# Altium schematic symbol library Altium-IC.SchLib: 158 symbols (part 1 of 2)
Pins are listed as number, name and electrical type; pins without a type are passive.

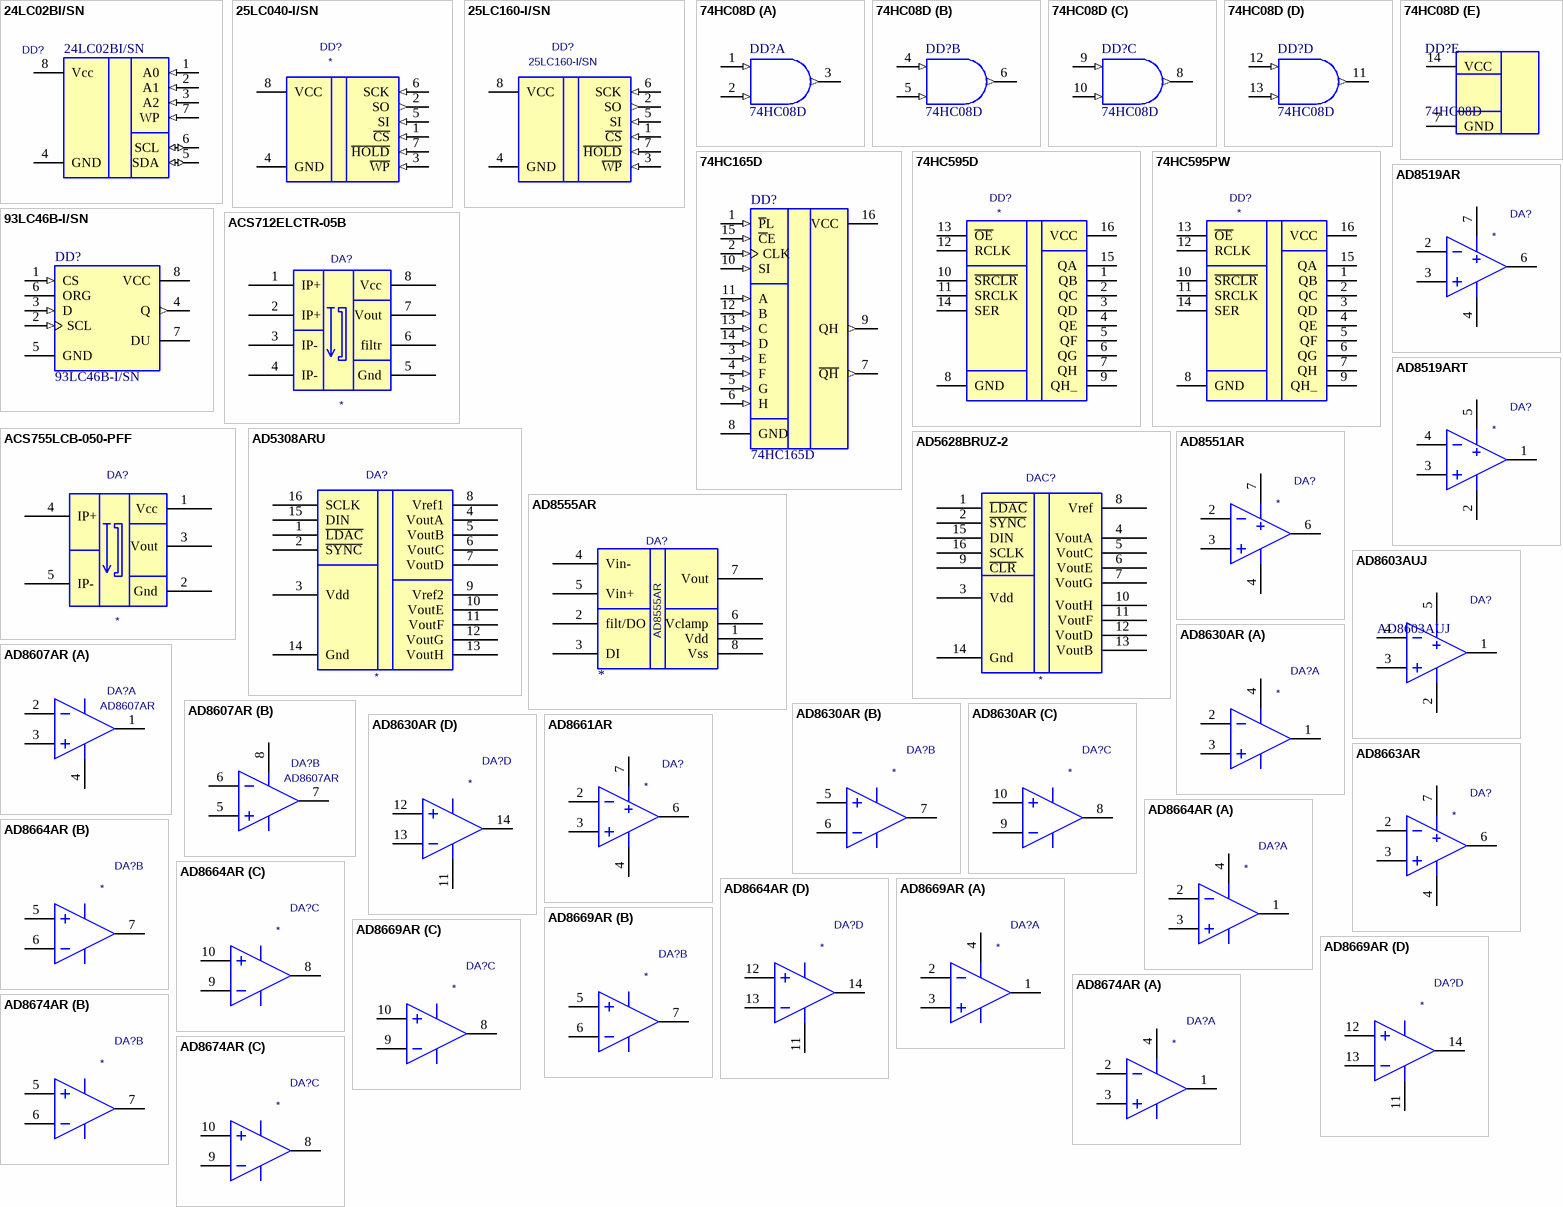
[diagram p0: symbols 24LC02BI/SN to AD8674AR]

## 24LC02BI/SN
designator DD?
2K I2C™ Serial EEPROM; Value: 24LC02BI/SN
footprint Model Name (Footprint not found)
footprint SO8 (SOIC, 8-Leads, Body 4.9x3.9mm, Pitch 1.27mm, IPC High Density)
pins: 1 A0 (in), 2 A1 (in), 3 A2 (in), 4 GND (power), 5 SDA (io), 6 SCL (io), 7 WP (in), 8 Vcc (power)

## 25LC040-I/SN
designator DD?
25LC040-I/SN; Value: *
footprint SO8
pins: 1 ~{CS} (in), 2 SO (out), 3 ~{WP} (in), 4 GND (power), 5 SI (in), 6 SCK (in), 7 ~{HOLD} (in), 8 VCC (power)

## 25LC160-I/SN
designator DD?
16Kbit SPI Bus Serial EEPROM; Value: *
footprint SO8
pins: 1 ~{CS} (in), 2 SO (out), 3 ~{WP} (in), 4 GND (power), 5 SI (in), 6 SCK (in), 7 ~{HOLD} (in), 8 VCC (power)

## 74HC08D
designator DD?
Quadruple 2-Input Positive-AND Gate
footprint SO14
part A pins: 1 A (in), 2 B (in), 3 Y (out)
part B pins: 4 A (in), 5 B (in), 6 Y (out)
part C pins: 8 Y (out), 9 A (in), 10 B (in)
part D pins: 11 Y (out), 12 A (in), 13 B (in)
part E pins: 7 GND (power), 14 VCC (power)

## 74HC165D
designator DD?
8-Bit Parallel-Load Shift Register; Value: *
footprint SO-G16
pins: 1 ~{P}L (in), 2 CLK (in), 3 E (in), 4 F (in), 5 G (in), 6 H (in), 7 ~{QH} (out), 8 GND (power), 9 QH (out), 10 SI (in), 11 A (in), 12 B (in), 13 C (in), 14 D (in), 15 ~{C}E (in), 16 VCC (power)

## 74HC595D
designator DD?
8-bit serial-in, serial or parallel-out  shift register with output latches;  3-state
footprint SO-G16
pins: 1 QB, 2 QC, 3 QD, 4 QE, 5 QF, 6 QG, 7 QH, 8 GND, 9 QH_, 10 ~{SRCLR}, 11 SRCLK, 12 RCLK, 13 ~{OE}, 14 SER, 15 QA, 16 VCC

## 74HC595PW
designator DD?
8-bit serial-in, serial or parallel-out  shift register with output latches;  3-state
footprint TSSOP16 (TSSOP, 16-Leads, Body 5x4.4mm, Pitch 0.65mm, IPC High Density)
pins: 1 QB, 2 QC, 3 QD, 4 QE, 5 QF, 6 QG, 7 QH, 8 GND, 9 QH_, 10 ~{SRCLR}, 11 SRCLK, 12 RCLK, 13 ~{OE}, 14 SER, 15 QA, 16 VCC

## 93LC46B-I/SN
designator DD?
Serial Microwire EEPROM 1K (64 x 16 or 128 x 8)
footprint SO8 (SOIC, 8-Leads, Body 4.9x3.9mm, Pitch 1.27mm, IPC High Density)
pins: 1 CS (in), 2 SCL (in), 3 D (in), 4 Q (out), 5 GND (power), 6 ORG, 7 DU, 8 VCC (power)

## ACS712ELCTR-05B
designator DA?
Hall Effect-Based Linear Current Sensor
footprint SO8
pins: 1 IP+, 2 IP+, 3 IP-, 4 IP-, 5 Gnd, 6 filtr, 7 Vout, 8 Vcc

## ACS755LCB-050-PFF
designator DA?
ACS755LCB-050(ACS756); Value: *
footprint CB/CA (Allegro Current sensor)
pins: 1 Vcc, 2 Gnd, 3 Vout, 4 IP+, 5 IP-

## AD5308ARU
designator DA?
AD5308ARU; Value: *
footprint TSSOP16 (TSSOP, 16-Leads, Body 5x4.4mm, Pitch 0.65mm, IPC High Density)
pins: 1 ~{LDAC}, 2 ~{SYNC}, 3 Vdd, 4 VoutA, 5 VoutB, 6 VoutC, 7 VoutD, 8 Vref1, 9 Vref2, 10 VoutE, 11 VoutF, 12 VoutG, 13 VoutH, 14 Gnd, 15 DIN, 16 SCLK

## AD5628BRUZ-2
designator DAC?
AD5628BRUZ-2; Value: *
footprint TSSOP16 (TSSOP, 16-Leads, Body 5x4.4mm, Pitch 0.65mm, IPC High Density)
pins: 1 ~{LDAC}, 2 ~{SYNC}, 3 Vdd, 4 VoutA, 5 VoutC, 6 VoutE, 7 VoutG, 8 Vref, 9 ~{CLR}, 10 VoutH, 11 VoutF, 12 VoutD, 13 VoutB, 14 Gnd, 15 DIN, 16 SCLK

## AD8519AR
designator DA?
Operational Amplifier; Value: *
footprint SO8
pins: 1 hidden, 2 IN-, 3 IN+, 4 V-, 5 hidden, 6 OUT, 7 V+, 8 hidden

## AD8519ART
designator DA?
Operational Amplifier; Value: *
footprint SOT-23-5
pins: 1 OUT, 2 V-, 3 IN+, 4 IN-, 5 V+

## AD8551AR
designator DA?
Operational Amplifier, Zero-Drift, Single-Supply, Rail-to-Rail, Voff 1uV; Value: *
footprint SO8
pins: 1 hidden, 2 IN-, 3 IN+, 4 V-, 5 hidden, 6 OUT, 7 V+, 8 hidden

## AD8555AR
designator DA?
Sensor Signal Amplifier; Value: *
footprint SO8
pins: 1 Vdd, 2 filt/DO, 3 DI, 4 Vin-, 5 Vin+, 6 Vclamp, 7 Vout, 8 Vss

## AD8603AUJ
designator DA?
Low Noise CMOS, Precision 5v, Rail-to-Rail Input/Output Operational Amplifiers; Value: AD8603AUJ
footprint SOT-23-5
pins: 1 OUT, 2 V-, 3 IN+, 4 IN-, 5 V+

## AD8607AR
designator DA?
Operational Amplifier, Voff 700uV
footprint SO8
part A pins: 1 OUT, 2 IN-, 3 IN+, 4 V-
part B pins: 5 IN+, 6 IN-, 7 OUT, 8 V+

## AD8630AR
designator DA?
Operational Amplifier; Value: *
footprint SO14
part A pins: 1 OUT, 2 IN-, 3 IN+, 4 V+
part B pins: 5 IN+, 6 IN-, 7 OUT
part C pins: 8 OUT, 9 IN-, 10 IN+
part D pins: 11 V-, 12 IN+, 13 IN-, 14 OUT

## AD8661AR
designator DA?
Low Noise, Precision 16 V CMOS,  Rail-to-Rail Operational Amplifiers; Value: *
footprint SO8
pins: 1 hidden, 2 IN-, 3 IN+, 4 V-, 5 hidden, 6 OUT, 7 V+, 8 hidden

## AD8663AR
designator DA?
Operational Amplifier; Value: *
footprint SO8
pins: 1 hidden, 2 IN-, 3 IN+, 4 V-, 5 hidden, 6 OUT, 7 V+, 8 hidden

## AD8664AR
designator DA?
Low Noise, Precision 16 V CMOS,  Rail-to-Rail Operational Amplifiers; Value: *
footprint SO14
part A pins: 1 OUT, 2 IN-, 3 IN+, 4 V+
part B pins: 5 IN+, 6 IN-, 7 OUT
part C pins: 8 OUT, 9 IN-, 10 IN+
part D pins: 11 V-, 12 IN+, 13 IN-, 14 OUT

## AD8669AR
designator DA?
Operational Amplifier, Rail to Rail; Value: *
footprint SO14
part A pins: 1 OUT, 2 IN-, 3 IN+, 4 V+
part B pins: 5 IN+, 6 IN-, 7 OUT
part C pins: 8 OUT, 9 IN-, 10 IN+
part D pins: 11 V-, 12 IN+, 13 IN-, 14 OUT

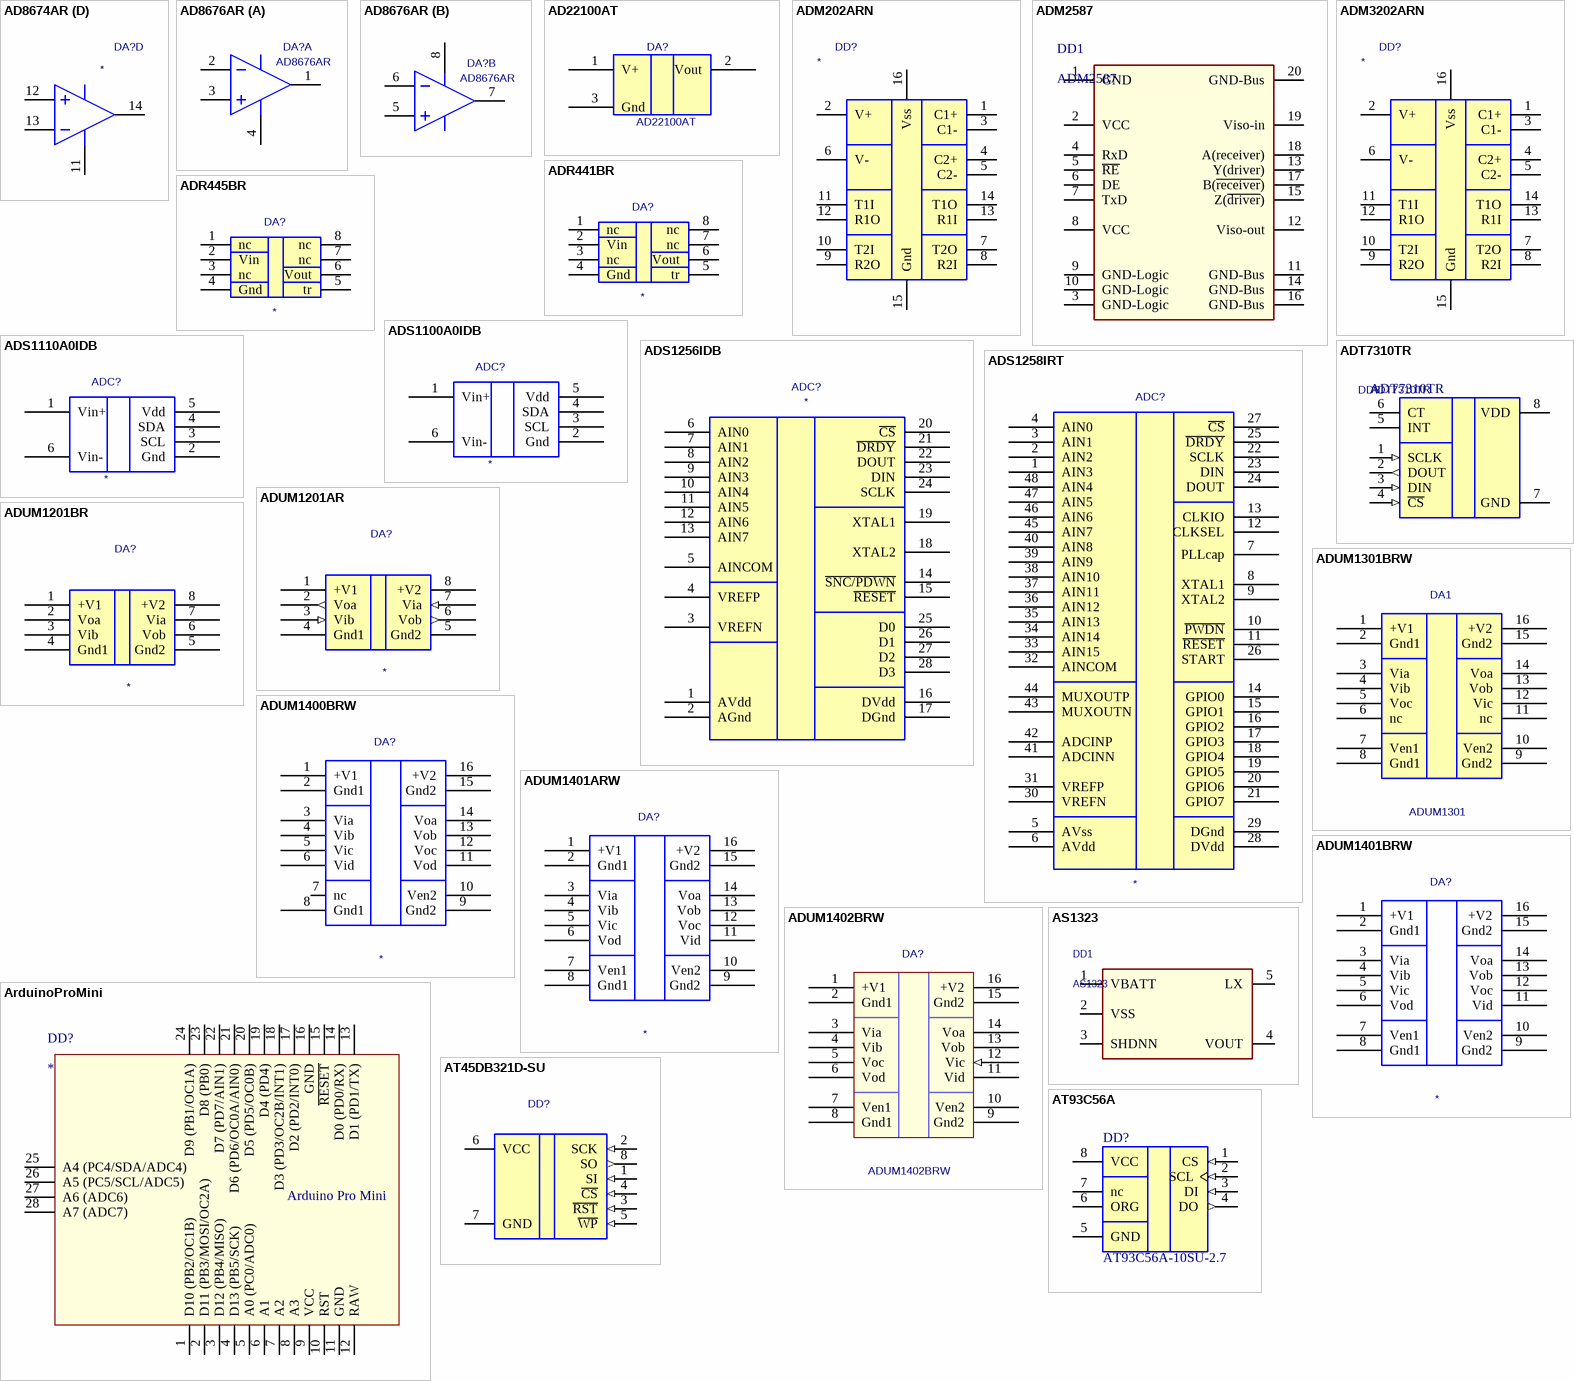
[diagram p1: symbols AD8674AR to AT93C56A]

## AD8674AR
designator DA?
Operational Amplifier; Value: *
footprint SO14
part A pins: 1 OUT, 2 IN-, 3 IN+, 4 V+
part B pins: 5 IN+, 6 IN-, 7 OUT
part C pins: 8 OUT, 9 IN-, 10 IN+
part D pins: 11 V-, 12 IN+, 13 IN-, 14 OUT

## AD8676AR
designator DA?
Operational Amplifier, Voff 100uV
footprint SO8
part A pins: 1 OUT, 2 IN-, 3 IN+, 4 V-
part B pins: 5 IN+, 6 IN-, 7 OUT, 8 V+

## AD22100AT
designator DA?
Voltage Output Temperature Sensor
footprint TO-92 (Modifined, 3x1.524mm)
pins: 1 V+, 2 Vout, 3 Gnd

## ADM202ARN
designator DD?
RS232 driver 5V; Value: *
footprint SO-G16 (SOIC, 16-Leads, Body 9.9x3.9mm, Pitch 1.27mm, IPC High Density)
pins: 1 C1+, 2 V+, 3 C1-, 4 C2+, 5 C2-, 6 V-, 7 T2O, 8 R2I, 9 R2O, 10 T2I, 11 T1I, 12 R1O, 13 R1I, 14 T1O, 15 Gnd, 16 Vss

## ADM2587
designator DD1
Signal and Power Isolated RS-485 integrated DC/DC
footprint SOIC127P1030X265-20M (SOIC, 20-Leads, Body 13,0x7,6mm (max), Pitch 1,27mm, IPC Low Density)
pins: 1 GND, 2 VCC, 3 GND-Logic, 4 RxD, 5 ~{RE}, 6 DE, 7 TxD, 8 VCC, 9 GND-Logic, 10 GND-Logic, 11 GND-Bus, 12 Viso-out, 13 Y(driver), 14 GND-Bus, 15 Z(~{driver}), 16 GND-Bus, 17 B(~{receiver}), 18 A(receiver), 19 Viso-in, 20 GND-Bus

## ADM3202ARN
designator DD?
RS232 driver 3.3V; Value: *
footprint TSSOP16 (TSSOP, 16-Leads, Body 5x4.4mm, Pitch 0.65mm, IPC High Density)
footprint SO-G16 (SOIC, 16-Leads, Body 9.9x3.9mm, Pitch 1.27mm, IPC High Density)
pins: 1 C1+, 2 V+, 3 C1-, 4 C2+, 5 C2-, 6 V-, 7 T2O, 8 R2I, 9 R2O, 10 T2I, 11 T1I, 12 R1O, 13 R1I, 14 T1O, 15 Gnd, 16 Vss

## ADR441BR
designator DA?
2.5V References; Value: *
footprint SO8
pins: 1 nc, 2 Vin, 3 nc, 4 Gnd, 5 tr, 6 Vout, 7 nc, 8 nc

## ADR445BR
designator DA?
5V References, 0.04%, 1ppm; Value: *
footprint SO8
pins: 1 nc, 2 Vin, 3 nc, 4 Gnd, 5 tr, 6 Vout, 7 nc, 8 nc

## ADS1100A0IDB
designator ADC?
ADS1100A0IDB; Value: *
footprint SOT-23-6
pins: 1 Vin+, 2 Gnd, 3 SCL, 4 SDA, 5 Vdd, 6 Vin-

## ADS1110A0IDB
designator ADC?
ADS1110A0IDB; Value: *
footprint SOT-23-6
pins: 1 Vin+, 2 Gnd, 3 SCL, 4 SDA, 5 Vdd, 6 Vin-

## ADS1256IDB
designator ADC?
ADS1256IDB; Value: *
footprint SOP65P780-28L (SOP, 28-Leads, Body 10.2x5.3mm, Pitch 0.65mm, IPC High Density)
pins: 1 AVdd, 2 AGnd, 3 VREFN, 4 VREFP, 5 AINCOM, 6 AIN0, 7 AIN1, 8 AIN2, 9 AIN3, 10 AIN4, 11 AIN5, 12 AIN6, 13 AIN7, 14 ~{SNC/PDWN}, 15 ~{RESET}, 16 DVdd, 17 DGnd, 18 XTAL2, 19 XTAL1, 20 ~{CS}, 21 ~{DRDY}, 22 DOUT, 23 DIN, 24 SCLK, 25 D0, 26 D1, 27 D2, 28 D3

## ADS1258IRT
designator ADC?
ADS1258IRT; Value: *
footprint QFN7X7-48
pins: 1 AIN3, 2 AIN2, 3 AIN1, 4 AIN0, 5 AVss, 6 AVdd, 7 PLLcap, 8 XTAL1, 9 XTAL2, 10 ~{PWDN}, 11 ~{RESET}, 12 CLKSEL, 13 CLKIO, 14 GPIO0, 15 GPIO1, 16 GPIO2, 17 GPIO3, 18 GPIO4, 19 GPIO5, 20 GPIO6, 21 GPIO7, 22 SCLK, 23 DIN, 24 DOUT, 25 ~{DRDY}, 26 START, 27 ~{CS}, 28 DVdd, 29 DGnd, 30 VREFN, 31 VREFP, 32 AINCOM, 33 AIN15, 34 AIN14, 35 AIN13, 36 AIN12, 37 AIN11, 38 AIN10, 39 AIN9, 40 AIN8, 41 ADCINN, 42 ADCINP, 43 MUXOUTN, 44 MUXOUTP, 45 AIN7, 46 AIN6, 47 AIN5, 48 AIN4

## ADT7310TR
designator DD?
±0.5°C Accurate, 16-Bit  Digital SPI Temperature Sensor; Value: ADT7310TR
footprint Model Name (Footprint not found)
footprint SO8 (SOIC, 8-Leads, Body 4.9x3.9mm, Pitch 1.27mm, IPC High Density)
pins: 1 SCLK (in), 2 DOUT (out), 3 DIN (in), 4 ~{CS} (in), 5 INT (oc), 6 CT (oc), 7 GND (power), 8 VDD (power)

## ADUM1201AR
designator DA?
Standart digital isolator 1/1 channels; Value: *
footprint SO8
pins: 1 +V1, 2 Voa (out), 3 Vib (in), 4 Gnd1, 5 Gnd2, 6 Vob (out), 7 Via (in), 8 +V2

## ADUM1201BR
designator DA?
Standart digital isolator 1/1 channels; Value: *
footprint SO8
pins: 1 +V1, 2 Voa, 3 Vib, 4 Gnd1, 5 Gnd2, 6 Vob, 7 Via, 8 +V2

## ADUM1301BRW
designator DA1, comment ADUM1301
Standart digital isolator 2/1 channels; Value: *
footprint SOIC-16N (SOIC, 16-Leads, Body 10,5x7,6mm (max), Pitch 1,27mm, IPC Medium Density)
pins: 1 +V1, 2 Gnd1, 3 Via, 4 Vib, 5 Voc, 6 nc, 7 Ven1, 8 Gnd1, 9 Gnd2, 10 Ven2, 11 nc, 12 Vic, 13 Vob, 14 Voa, 15 Gnd2, 16 +V2

## ADUM1400BRW
designator DA?
Standart digital isolator 4/0 channels; Value: *
pins: 1 +V1, 2 Gnd1, 3 Via, 4 Vib, 5 Vic, 6 Vid, 7 nc, 8 Gnd1, 9 Gnd2, 10 Ven2, 11 Vod, 12 Voc, 13 Vob, 14 Voa, 15 Gnd2, 16 +V2

## ADUM1401ARW
designator DA?
Standart digital isolator 3/1 channels; Value: *
pins: 1 +V1, 2 Gnd1, 3 Via, 4 Vib, 5 Vic, 6 Vod, 7 Ven1, 8 Gnd1, 9 Gnd2, 10 Ven2, 11 Vid, 12 Voc, 13 Vob, 14 Voa, 15 Gnd2, 16 +V2

## ADUM1401BRW
designator DA?
Standart digital isolator 3/1 channels; Value: *
pins: 1 +V1, 2 Gnd1, 3 Via, 4 Vib, 5 Vic, 6 Vod, 7 Ven1, 8 Gnd1, 9 Gnd2, 10 Ven2, 11 Vid, 12 Voc, 13 Vob, 14 Voa, 15 Gnd2, 16 +V2

## ADUM1402BRW
designator DA?
Standart digital isolator 2/2 channels; Value: *
footprint SOIC-16N (SOIC, 16-Leads, Body 10,5x7,6mm (max), Pitch 1,27mm, IPC Medium Density)
pins: 1 +V1, 2 Gnd1, 3 Via, 4 Vib, 5 Voc, 6 Vod, 7 Ven1, 8 Gnd1, 9 Gnd2, 10 Ven2, 11 Vid, 12 Vic (in), 13 Vob, 14 Voa, 15 Gnd2, 16 +V2

## ArduinoProMini
designator DD?
Arduino Pro Mini board
footprint Arduino Pro Mini
footprint Arduino Pro Mini baite
pins: 1 D10 (PB2/OC1B), 2 D11 (PB3/MOSI/OC2A), 3 D12 (PB4/MISO), 4 D13 (PB5/SCK), 5 A0 (PC0/ADC0), 6 A1, 7 A2, 8 A3, 9 VCC, 10 RST, 11 GND, 12 RAW, 13 D1 (PD1/TX), 14 D0 (PD0/RX), 15 ~{RESET}, 16 GND, 17 D2 (PD2/INT0), 18 D3 (PD3/OC2B/INT1), 19 D4 (PD4), 20 D5 (PD5/OC0B), 21 D6 (PD6/OC0A/AIN0), 22 D7 (PD7/AIN1), 23 D8 (PB0), 24 D9 (PB1/OC1A), 25 A4 (PC4/SDA/ADC4), 26 A5 (PC5/SCL/ADC5), 27 A6 (ADC6), 28 A7 (ADC7)
text: Arduino Pro Mini

## AS1323
designator DD1
Single cell DC/DC converter
footprint SOT-23-5 (http://www.nxp.com/acrobat_download/packages/SOT753.pdf)
pins: 1 VBATT, 2 VSS, 3 SHDNN, 4 VOUT, 5 LX

## AT45DB321D-SU
designator DD?  (value not drawn)
32 Mbit SPI Atmel DataFlash; Value: *
footprint SO8-2_L (8-Pin Small Outline Package 200mil, 1.27 mm Pitch, IPC High Density)
footprint SO8_2_N (8-Pin Small Outline Package 200mil, 1.27 mm Pitch, IPC Medium Density)
pins: 1 SI (in), 2 SCK (in), 3 ~{RST} (in), 4 ~{CS} (in), 5 ~{WP} (in), 6 VCC (power), 7 GND (power), 8 SO (out)

## AT93C56A
designator DD?, comment AT93C56A-10SU-2.7
Serial Microwire EEPROM 2K (128 x 16 or 256 x 8); Value: AT93C56A-10SU-2.7
footprint SO8 (SOIC, 8-Leads, Body 4.9x3.9mm, Pitch 1.27mm, IPC High Density)
pins: 1 CS (in), 2 SCL (in), 3 DI (in), 4 DO (out), 5 GND (power), 6 ORG, 7 nc, 8 VCC (power)

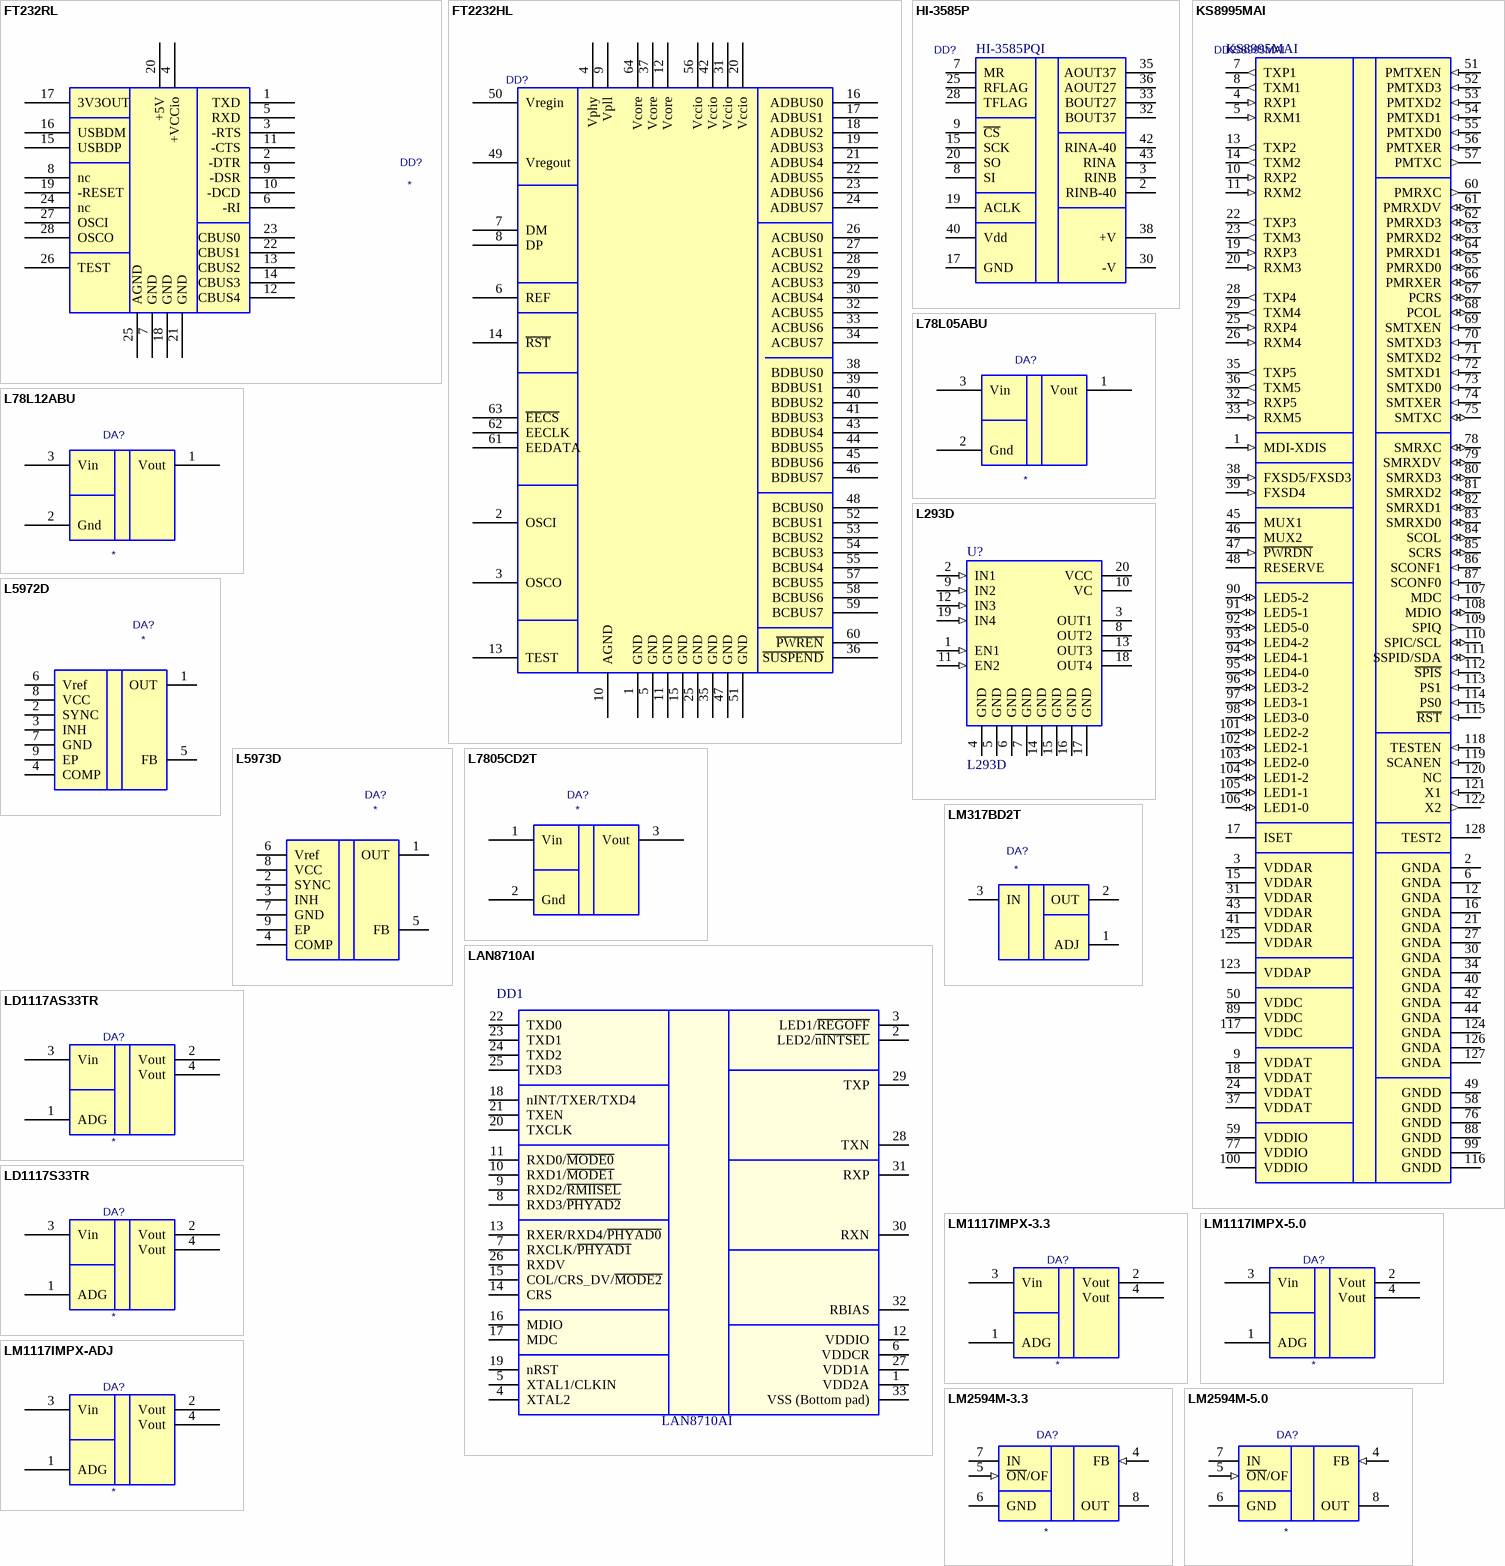
[diagram p2: symbols FT232RL to LM2594M-5.0]

## FT232RL
designator DD?
USB to serial UART  interface
footprint SOP65P780-28L (SOP, 28-Leads, Body 10.2x5.3mm, Pitch 0.65mm, IPC High Density)
pins: 1 TXD, 2 -DTR, 3 -RTS, 4 +VCCio, 5 RXD, 6 -RI, 7 GND, 8 nc, 9 -DSR, 10 -DCD, 11 -CTS, 12 CBUS4, 13 CBUS2, 14 CBUS3, 15 USBDP, 16 USBDM, 17 3V3OUT, 18 GND, 19 -RESET, 20 +5V, 21 GND, 22 CBUS1, 23 CBUS0, 24 nc, 25 AGND, 26 TEST, 27 OSCI, 28 OSCO

## FT2232HL
designator DD?
Dual High Speed  USB to Multipurpose  UART/FIFO IC
footprint LQFP64_L (Thin QFP, 64-Leads, Body 10x10mm, Pitch 0.5mm, IPC High Density)
pins: 1 GND, 2 OSCI, 3 OSCO, 4 Vphy, 5 GND, 6 REF, 7 DM, 8 DP, 9 Vpll, 10 AGND, 11 GND, 12 Vcore, 13 TEST, 14 ~{RST}, 15 GND, 16 ADBUS0, 17 ADBUS1, 18 ADBUS2, 19 ADBUS3, 20 Vccio, 21 ADBUS4, 22 ADBUS5, 23 ADBUS6, 24 ADBUS7, 25 GND, 26 ACBUS0, 27 ACBUS1, 28 ACBUS2, 29 ACBUS3, 30 ACBUS4, 31 Vccio, 32 ACBUS5, 33 ACBUS6, 34 ACBUS7, 35 GND, 36 ~{SUSPEND}, 37 Vcore, 38 BDBUS0, 39 BDBUS1, 40 BDBUS2, 41 BDBUS3, 42 Vccio, 43 BDBUS4, 44 BDBUS5, 45 BDBUS6, 46 BDBUS7, 47 GND, 48 BCBUS0, 49 Vregout, 50 Vregin, 51 GND, 52 BCBUS1, 53 BCBUS2, 54 BCBUS3, 55 BCBUS4, 56 Vccio, 57 BCBUS5, 58 BCBUS6, 59 BCBUS7, 60 ~{PWREN}, 61 EEDATA, 62 EECLK, 63 ~{EECS}, 64 Vcore

## HI-3585P
designator DD?, comment HI-3585PQI
ARINC429 Terminal IC with SPI Interface; Value: HI-3585PQI
footprint PQFP80P1390X1390-44L (QFP, 44-Leads, Body 10x10mm, Pitch 0.8mm, IPC High Density)
pins: 2 RINB-40, 3 RINB, 7 MR, 8 SI, 9 ~{CS}, 15 SCK, 17 GND, 19 ACLK, 20 SO, 25 RFLAG, 28 TFLAG, 30 -V, 32 BOUT37, 33 BOUT27, 35 AOUT37, 36 AOUT27, 38 +V, 40 Vdd, 42 RINA-40, 43 RINA

## KS8995MAI
designator DD?
Integrated 5-Port 10/100 Managed Switch; Value: KS8995MAI
footprint PQFP50P1720X2320-128L (Shrink QFP, 128-Leads, Body 20x14 mm, Pitch 0.5mm, IPC High Density)
pins: 1 MDI-XDIS (in), 2 GNDA (power), 3 VDDAR (power), 4 RXP1 (in), 5 RXM1 (in), 6 GNDA (power), 7 TXP1 (out), 8 TXM1 (out), 9 VDDAT, 10 RXP2 (in), 11 RXM2 (in), 12 GNDA (power), 13 TXP2 (out), 14 TXM2 (out), 15 VDDAR (power), 16 GNDA (power), 17 ISET, 18 VDDAT (power), 19 RXP3 (in), 20 RXM3 (in), 21 GNDA (power), 22 TXP3 (out), 23 TXM3 (out), 24 VDDAT (power), 25 RXP4 (in), 26 RXM4 (in), 27 GNDA (power), 28 TXP4 (out), 29 TXM4 (out), 30 GNDA (power), 31 VDDAR (power), 32 RXP5 (in), 33 RXM5 (in), 34 GNDA (power), 35 TXP5 (out), 36 TXM5 (out), 37 VDDAT (power), 38 FXSD5/FXSD3 (in), 39 FXSD4 (in), 40 GNDA (power), 41 VDDAR (power), 42 GNDA (power), 43 VDDAR (power), 44 GNDA (power), 45 MUX1, 46 MUX2, 47 ~{PWRDN} (in), 48 RESERVE, 49 GNDD (power), 50 VDDC (power), 51 PMTXEN (in), 52 PMTXD3 (in), 53 PMTXD2 (in), 54 PMTXD1 (in), 55 PMTXD0 (in), 56 PMTXER (in), 57 PMTXC (out), 58 GNDD (power), 59 VDDIO (power), 60 PMRXC (out), 61 PMRXDV (io), 62 PMRXD3 (io), 63 PMRXD2 (io), 64 PMRXD1 (io), 65 PMRXD0 (io), 66 PMRXER (io), 67 PCRS (io), 68 PCOL (io), 69 SMTXEN (in), 70 SMTXD3 (in), 71 SMTXD2 (in), 72 SMTXD1 (in), 73 SMTXD0 (in), 74 SMTXER (in), 75 SMTXC (io), 76 GNDD (power), 77 VDDIO (power), 78 SMRXC (io), 79 SMRXDV (io), 80 SMRXD3 (io), 81 SMRXD2 (io), 82 SMRXD1 (io), 83 SMRXD0 (io), 84 SCOL (io), 85 SCRS (io), 86 SCONF1 (in), 87 SCONF0 (in), 88 GNDD (power), 89 VDDC (power), 90 LED5-2 (io), 91 LED5-1 (io), 92 LED5-0 (io), 93 LED4-2 (io), 94 LED4-1 (io), 95 LED4-0 (io), 96 LED3-2 (io), 97 LED3-1 (io), 98 LED3-0 (io), 99 GNDD (power), 100 VDDIO (power), 101 LED2-2 (io), 102 LED2-1 (io), 103 LED2-0 (io), 104 LED1-2 (io), 105 LED1-1 (io), 106 LED1-0 (io), 107 MDC (in), 108 MDIO (io), 109 SPIQ (out), 110 SPIC/SCL (io), 111 SSPID/SDA (io), 112 ~{SPIS} (in), 113 PS1 (in), 114 PS0 (in), 115 ~{RST} (in), 116 GNDD (power), 117 VDDC (power), 118 TESTEN (in), 119 SCANEN (in), 120 NC, 121 X1 (in), 122 X2 (out), 123 VDDAP (power), 124 GNDA (power), 125 VDDAR (power), 126 GNDA (power), 127 GNDA (power), 128 TEST2

## L78L05ABU
designator DA?
L78L05ABU; Value: *
footprint SOT89
pins: 1 Vout, 2 Gnd, 3 Vin

## L78L12ABU
designator DA?
L78L12ABU; Value: *
footprint SOT89
pins: 1 Vout, 2 Gnd, 3 Vin

## L293D
designator U?
Push-Pull Four Channel Driver With Diode
pins: 1 EN1 (in), 2 IN1 (in), 3 OUT1 (hiz), 4 GND (power), 5 GND (power), 6 GND (power), 7 GND (power), 8 OUT2 (hiz), 9 IN2 (in), 10 VC (power), 11 EN2 (in), 12 IN3 (in), 13 OUT3 (hiz), 14 GND (power), 15 GND (power), 16 GND (power), 17 GND (power), 18 OUT4 (hiz), 19 IN4 (in), 20 VCC (power)

## L5972D
designator DA?
2A switch step down switching regulator; Value: *
footprint SO8-h (SOIC with Exposed pad, 8-Leads, Body 4.9x3.9mm, Pitch 1.27mm, IPC High Density)
pins: 1 OUT (power), 2 SYNC, 3 INH, 4 COMP (power), 5 FB, 6 Vref (power), 7 GND (power), 8 VCC (power), 9 EP (power)

## L5973D
designator DA?
3A switch step down switching regulator; Value: *
footprint SO8-h (SOIC with Exposed pad, 8-Leads, Body 4.9x3.9mm, Pitch 1.27mm, IPC High Density)
pins: 1 OUT (power), 2 SYNC, 3 INH, 4 COMP (power), 5 FB, 6 Vref (power), 7 GND (power), 8 VCC (power), 9 EP (power)

## L7805CD2T
designator DA?
L7805CD2T; Value: *
footprint D2P
pins: 1 Vin, 2 Gnd, 3 Vout

## LAN8710AI
designator DD1
10/100 Ethernet Transceiver; Value: LAN8710AI
footprint QFN32
pins: 1 VDD2A, 2 LED2/~{nINTSEL}, 3 LED1/~{REGOFF}, 4 XTAL2, 5 XTAL1/CLKIN, 6 VDDCR, 7 RXCLK/~{PHYAD1}, 8 RXD3/~{PHYAD2}, 9 RXD2/~{RMIISEL}, 10 RXD1/~{MODE1}, 11 RXD0/~{MODE0}, 12 VDDIO, 13 RXER/RXD4/~{PHYAD0}, 14 CRS, 15 COL/CRS_DV/~{MODE2}, 16 MDIO, 17 MDC, 18 nINT/TXER/TXD4, 19 nRST, 20 TXCLK, 21 TXEN, 22 TXD0, 23 TXD1, 24 TXD2, 25 TXD3, 26 RXDV, 27 VDD1A, 28 TXN, 29 TXP, 30 RXN, 31 RXP, 32 RBIAS, 33 VSS (Bottom pad)

## LD1117AS33TR
designator DA?
800 mA, Low-Dropout Regulator, -40/+125
footprint SOT-223
pins: 1 ADG, 2 Vout, 3 Vin, 4 Vout

## LD1117S33TR
designator DA?
800 mA, Low-Dropout Regulator, -0/+150
footprint SOT-223
pins: 1 ADG, 2 Vout, 3 Vin, 4 Vout

## LM317BD2T
designator DA?
LM317BD2T; PackageDocument: 1997; ComponentLink1DescBC: Manufacturer Link; ComponentLink2DescA4: Datasheet; Note: Pin 2 is electrically connected to Pin 4; Pin 4 is heasink; Published: 15-Apr-2002; DatasheetDocument: 1996; PackageReference: 936-03; Publisher: Altium Limited; ComponentLink1URL: http://www.onsemi.com/site/products/taxonomy/0,4438,503,00.html; ComponentLink2URL: http://www.onsemi.com/pub/Collateral/LM317-D.PDF; Value: *
footprint D2P
pins: 1 ADJ, 2 OUT, 3 IN

## LM1117IMPX-3.3
designator DA?
LM1117IMPX-3.3
footprint SOT-223
pins: 1 ADG, 2 Vout, 3 Vin, 4 Vout

## LM1117IMPX-5.0
designator DA?
LM1117IMPX-5.0
footprint SOT-223
pins: 1 ADG, 2 Vout, 3 Vin, 4 Vout

## LM1117IMPX-ADJ
designator DA?
LM1117IMPX-ADJ; Value: *
footprint SOT-223
pins: 1 ADG, 2 Vout, 3 Vin, 4 Vout

## LM2594M-3.3
designator DA?
Step-Down Voltage Regulator
footprint SO8
pins: 4 FB (in), 5 ~{ON}/OF (in), 6 GND, 7 IN (power), 8 OUT (power)

## LM2594M-5.0
designator DA?
Step-Down Voltage Regulator
footprint SO8
pins: 4 FB (in), 5 ~{ON}/OF (in), 6 GND, 7 IN (power), 8 OUT (power)

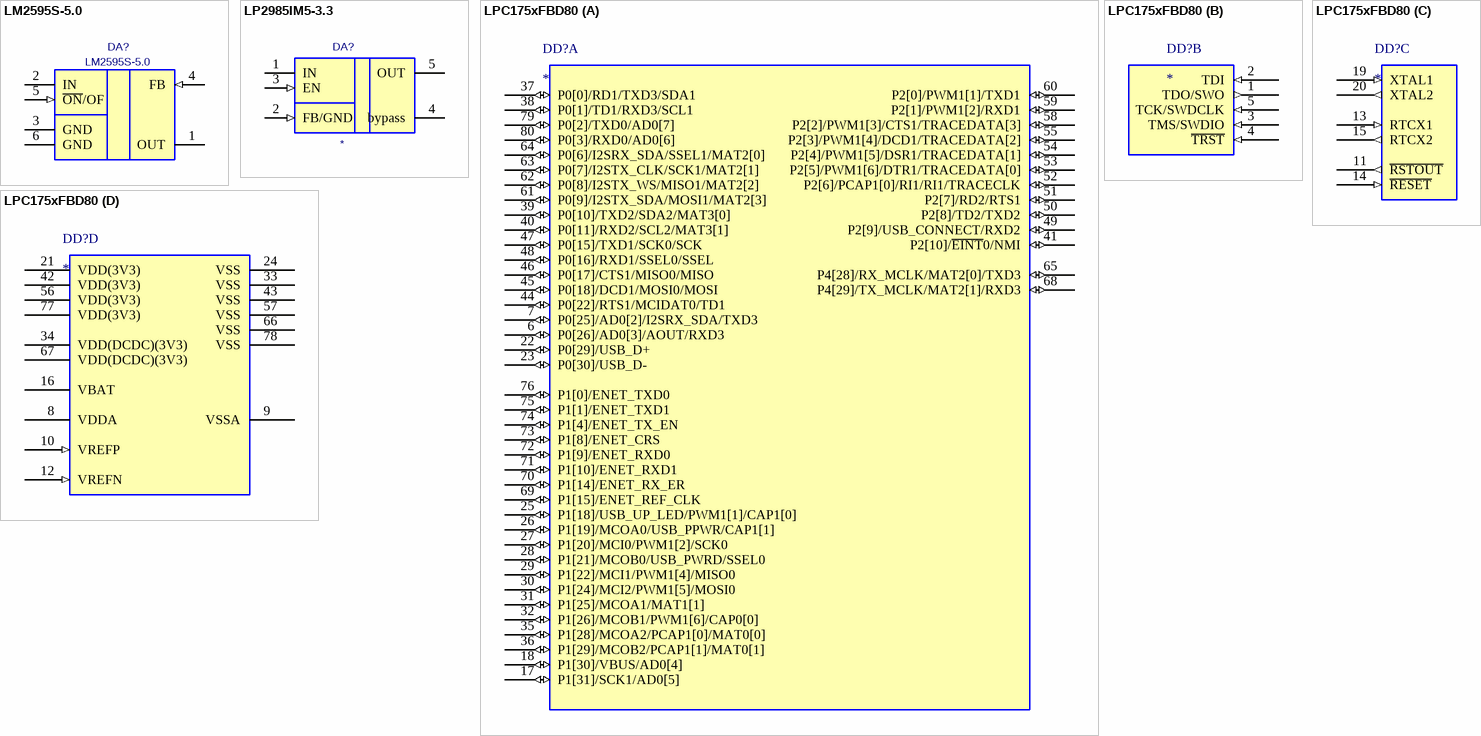
[diagram p3: symbols LM2595S-5.0 to LPC175xFBD80]

## LM2595S-5.0
designator DA?
Step-Down Voltage Regulator
footprint TS5B
pins: 1 OUT (power), 2 IN (power), 3 GND, 4 FB (in), 5 ~{ON}/OF (in), 6 GND

## LP2985IM5-3.3
designator DA?
150 mA, Low-Noise, Ultra Low-Dropout Regulator
footprint SOT-23-5
pins: 1 IN (power), 2 FB/GND (in), 3 EN (in), 4 bypass, 5 OUT (power)

## LPC175xFBD80
designator DD?
ARM Cortex-M3 32-Bit Microcontroller, 256KB Flash, 32KB RAM, 2 Channel CAN, 80-Lead LQFP; Value: *
footprint LQFP80_L (Thin QFP, 80-Leads, Body 12x12mm, Pitch 0.5mm, IPC High Density)
footprint LQFP80_N (Thin QFP, 80-Leads, Body 12x12mm, Pitch 0.5mm, IPC Medium Density)
part A pins: 6 P0[26]/AD0[3]/AOUT/RXD3 (io), 7 P0[25]/AD0[2]/I2SRX_SDA/TXD3 (io), 17 P1[31]/SCK1/AD0[5] (io), 18 P1[30]/VBUS/AD0[4] (io), 22 P0[29]/USB_D+ (io), 23 P0[30]/USB_D- (io), 25 P1[18]/USB_UP_LED/PWM1[1]/CAP1[0] (io), 26 P1[19]/MCOA0/USB_PPWR/CAP1[1] (io), 27 P1[20]/MCI0/PWM1[2]/SCK0 (io), 28 P1[21]/MCOB0/USB_PWRD/SSEL0 (io), 29 P1[22]/MCI1/PWM1[4]/MISO0 (io), 30 P1[24]/MCI2/PWM1[5]/MOSI0 (io), 31 P1[25]/MCOA1/MAT1[1] (io), 32 P1[26]/MCOB1/PWM1[6]/CAP0[0] (io), 35 P1[28]/MCOA2/PCAP1[0]/MAT0[0] (io), 36 P1[29]/MCOB2/PCAP1[1]/MAT0[1] (io), 37 P0[0]/RD1/TXD3/SDA1 (io), 38 P0[1]/TD1/RXD3/SCL1 (io), 39 P0[10]/TXD2/SDA2/MAT3[0] (io), 40 P0[11]/RXD2/SCL2/MAT3[1] (io), 41 P2[10]/~{EINT}0/NMI (io), 44 P0[22]/RTS1/MCIDAT0/TD1 (io), 45 P0[18]/DCD1/MOSI0/MOSI (io), 46 P0[17]/CTS1/MISO0/MISO (io), 47 P0[15]/TXD1/SCK0/SCK (io), 48 P0[16]/RXD1/SSEL0/SSEL (io), 49 P2[9]/USB_CONNECT/RXD2 (io), 50 P2[8]/TD2/TXD2 (io), 51 P2[7]/RD2/RTS1 (io), 52 P2[6]/PCAP1[0]/RI1/RI1/TRACECLK (io), 53 P2[5]/PWM1[6]/DTR1/TRACEDATA[0] (io), 54 P2[4]/PWM1[5]/DSR1/TRACEDATA[1] (io), 55 P2[3]/PWM1[4]/DCD1/TRACEDATA[2] (io), 58 P2[2]/PWM1[3]/CTS1/TRACEDATA[3] (io), 59 P2[1]/PWM1[2]/RXD1 (io), 60 P2[0]/PWM1[1]/TXD1 (io), 61 P0[9]/I2STX_SDA/MOSI1/MAT2[3] (io), 62 P0[8]/I2STX_WS/MISO1/MAT2[2] (io), 63 P0[7]/I2STX_CLK/SCK1/MAT2[1] (io), 64 P0[6]/I2SRX_SDA/SSEL1/MAT2[0] (io), 65 P4[28]/RX_MCLK/MAT2[0]/TXD3 (io), 68 P4[29]/TX_MCLK/MAT2[1]/RXD3 (io), 69 P1[15]/ENET_REF_CLK (io), 70 P1[14]/ENET_RX_ER (io), 71 P1[10]/ENET_RXD1 (io), 72 P1[9]/ENET_RXD0 (io), 73 P1[8]/ENET_CRS (io), 74 P1[4]/ENET_TX_EN (io), 75 P1[1]/ENET_TXD1 (io), 76 P1[0]/ENET_TXD0 (io), 79 P0[2]/TXD0/AD0[7] (io), 80 P0[3]/RXD0/AD0[6] (io)
part B pins: 1 TDO/SWO (out), 2 TDI (in), 3 TMS/SWDIO (in), 4 ~{TRST} (in), 5 TCK/SWDCLK (in)
part C pins: 11 ~{RSTOUT} (out), 13 RTCX1 (in), 14 ~{RESET} (in), 15 RTCX2 (out), 19 XTAL1 (in), 20 XTAL2 (out)
part D pins: 8 VDDA (power), 9 VSSA (power), 10 VREFP (in), 12 VREFN (in), 16 VBAT (power), 21 VDD(3V3) (power), 24 VSS (power), 33 VSS (power), 34 VDD(DCDC)(3V3) (power), 42 VDD(3V3) (power), 43 VSS (power), 56 VDD(3V3) (power), 57 VSS (power), 66 VSS (power), 67 VDD(DCDC)(3V3) (power), 77 VDD(3V3) (power), 78 VSS (power)

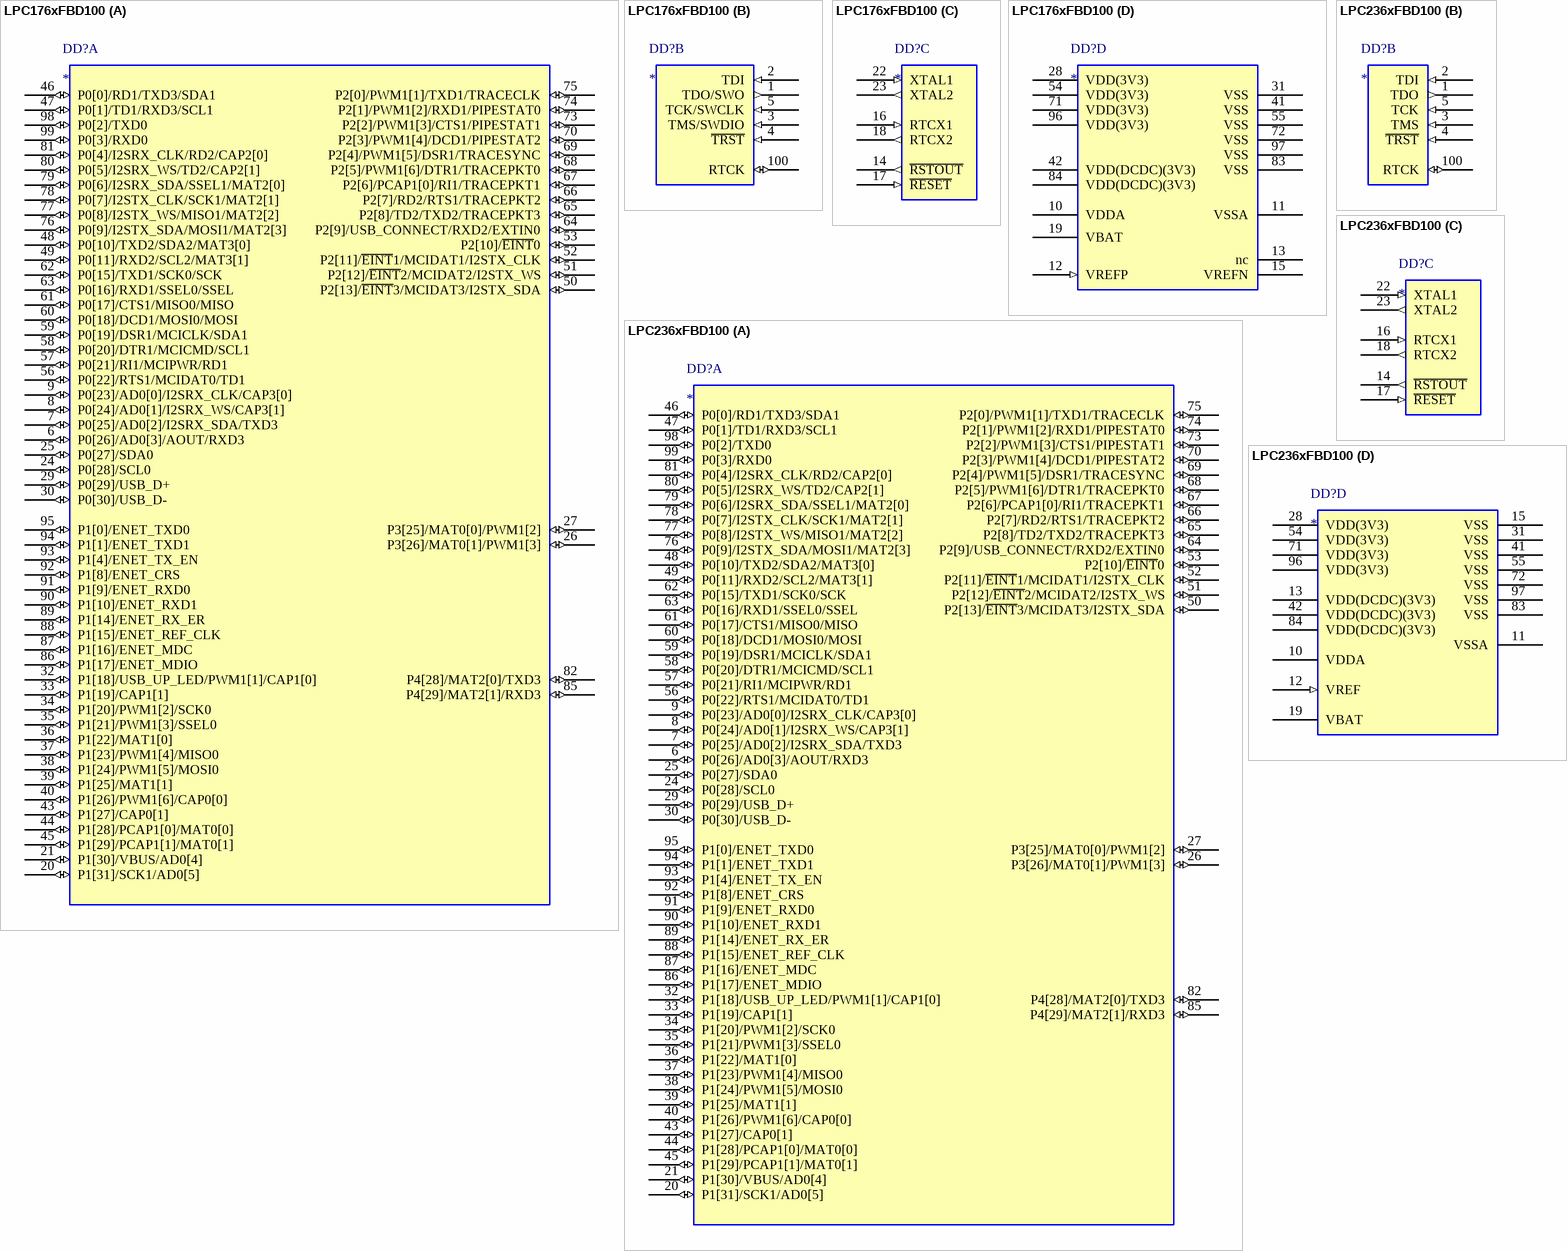
[diagram p4: symbols LPC176xFBD100 to LPC236xFBD100]

## LPC176xFBD100
designator DD?
ARM Cortex-M3 32-Bit Microcontroller, 512KB Flash, 58KB RAM, 4 Channel CAN, 100-Lead LQFP; Value: *
footprint LQFP-100_N (Thin QFP, 100-Leads, Body 14x14mm, Pitch 0.5mm, IPC Medium Density)
footprint LQFP-100_L (Thin QFP, 100-Leads, Body 14x14mm, Pitch 0.5mm, IPC High Density)
3D model LPC2368-QFP100 (PCB3D Model)
part A pins: 6 P0[26]/AD0[3]/AOUT/RXD3 (io), 7 P0[25]/AD0[2]/I2SRX_SDA/TXD3 (io), 8 P0[24]/AD0[1]/I2SRX_WS/CAP3[1] (io), 9 P0[23]/AD0[0]/I2SRX_CLK/CAP3[0] (io), 20 P1[31]/SCK1/AD0[5] (io), 21 P1[30]/VBUS/AD0[4] (io), 24 P0[28]/SCL0 (io), 25 P0[27]/SDA0 (io), 26 P3[26]/MAT0[1]/PWM1[3] (io), 27 P3[25]/MAT0[0]/PWM1[2] (io), 29 P0[29]/USB_D+ (io), 30 P0[30]/USB_D- (io), 32 P1[18]/USB_UP_LED/PWM1[1]/CAP1[0] (io), 33 P1[19]/CAP1[1] (io), 34 P1[20]/PWM1[2]/SCK0 (io), 35 P1[21]/PWM1[3]/SSEL0 (io), 36 P1[22]/MAT1[0] (io), 37 P1[23]/PWM1[4]/MISO0 (io), 38 P1[24]/PWM1[5]/MOSI0 (io), 39 P1[25]/MAT1[1] (io), 40 P1[26]/PWM1[6]/CAP0[0] (io), 43 P1[27]/CAP0[1] (io), 44 P1[28]/PCAP1[0]/MAT0[0] (io), 45 P1[29]/PCAP1[1]/MAT0[1] (io), 46 P0[0]/RD1/TXD3/SDA1 (io), 47 P0[1]/TD1/RXD3/SCL1 (io), 48 P0[10]/TXD2/SDA2/MAT3[0] (io), 49 P0[11]/RXD2/SCL2/MAT3[1] (io), 50 P2[13]/~{EINT}3/MCIDAT3/I2STX_SDA (io), 51 P2[12]/~{EINT}2/MCIDAT2/I2STX_WS (io), 52 P2[11]/~{EINT}1/MCIDAT1/I2STX_CLK (io), 53 P2[10]/~{EINT}0 (io), 56 P0[22]/RTS1/MCIDAT0/TD1 (io), 57 P0[21]/RI1/MCIPWR/RD1 (io), 58 P0[20]/DTR1/MCICMD/SCL1 (io), 59 P0[19]/DSR1/MCICLK/SDA1 (io), 60 P0[18]/DCD1/MOSI0/MOSI (io), 61 P0[17]/CTS1/MISO0/MISO (io), 62 P0[15]/TXD1/SCK0/SCK (io), 63 P0[16]/RXD1/SSEL0/SSEL (io), 64 P2[9]/USB_CONNECT/RXD2/EXTIN0 (io), 65 P2[8]/TD2/TXD2/TRACEPKT3 (io), 66 P2[7]/RD2/RTS1/TRACEPKT2 (io), 67 P2[6]/PCAP1[0]/RI1/TRACEPKT1 (io), 68 P2[5]/PWM1[6]/DTR1/TRACEPKT0 (io), 69 P2[4]/PWM1[5]/DSR1/TRACESYNC (io), 70 P2[3]/PWM1[4]/DCD1/PIPESTAT2 (io), 73 P2[2]/PWM1[3]/CTS1/PIPESTAT1 (io), 74 P2[1]/PWM1[2]/RXD1/PIPESTAT0 (io), 75 P2[0]/PWM1[1]/TXD1/TRACECLK (io), 76 P0[9]/I2STX_SDA/MOSI1/MAT2[3] (io), 77 P0[8]/I2STX_WS/MISO1/MAT2[2] (io), 78 P0[7]/I2STX_CLK/SCK1/MAT2[1] (io), 79 P0[6]/I2SRX_SDA/SSEL1/MAT2[0] (io), 80 P0[5]/I2SRX_WS/TD2/CAP2[1] (io), 81 P0[4]/I2SRX_CLK/RD2/CAP2[0] (io), 82 P4[28]/MAT2[0]/TXD3 (io), 85 P4[29]/MAT2[1]/RXD3 (io), 86 P1[17]/ENET_MDIO (io), 87 P1[16]/ENET_MDC (io), 88 P1[15]/ENET_REF_CLK (io), 89 P1[14]/ENET_RX_ER (io), 90 P1[10]/ENET_RXD1 (io), 91 P1[9]/ENET_RXD0 (io), 92 P1[8]/ENET_CRS (io), 93 P1[4]/ENET_TX_EN (io), 94 P1[1]/ENET_TXD1 (io), 95 P1[0]/ENET_TXD0 (io), 98 P0[2]/TXD0 (io), 99 P0[3]/RXD0 (io)
part B pins: 1 TDO/SWO (out), 2 TDI (in), 3 TMS/SWDIO (in), 4 ~{TRST} (in), 5 TCK/SWCLK (in), 100 RTCK (io)
part C pins: 14 ~{RSTOUT} (out), 16 RTCX1 (in), 17 ~{RESET} (in), 18 RTCX2 (out), 22 XTAL1 (in), 23 XTAL2 (out)
part D pins: 10 VDDA (power), 11 VSSA (power), 12 VREFP (in), 13 nc (power), 15 VREFN (power), 19 VBAT (power), 28 VDD(3V3) (power), 31 VSS (power), 41 VSS (power), 42 VDD(DCDC)(3V3) (power), 54 VDD(3V3) (power), 55 VSS (power), 71 VDD(3V3) (power), 72 VSS (power), 83 VSS (power), 84 VDD(DCDC)(3V3) (power), 96 VDD(3V3) (power), 97 VSS (power)

## LPC236xFBD100
designator DD?
ARM7 16/32-Bit Microcontroller, 100-Lead LQFP; Value: *
footprint LQFP-100_L (Thin QFP, 100-Leads, Body 14x14mm, Pitch 0.5mm, IPC High Density)
footprint LQFP-100_N (Thin QFP, 100-Leads, Body 14x14mm, Pitch 0.5mm, IPC Medium Density)
3D model LPC2368-QFP100 (PCB3D Model)
part A pins: 6 P0[26]/AD0[3]/AOUT/RXD3 (io), 7 P0[25]/AD0[2]/I2SRX_SDA/TXD3 (io), 8 P0[24]/AD0[1]/I2SRX_WS/CAP3[1] (io), 9 P0[23]/AD0[0]/I2SRX_CLK/CAP3[0] (io), 20 P1[31]/SCK1/AD0[5] (io), 21 P1[30]/VBUS/AD0[4] (io), 24 P0[28]/SCL0 (io), 25 P0[27]/SDA0 (io), 26 P3[26]/MAT0[1]/PWM1[3] (io), 27 P3[25]/MAT0[0]/PWM1[2] (io), 29 P0[29]/USB_D+ (io), 30 P0[30]/USB_D- (io), 32 P1[18]/USB_UP_LED/PWM1[1]/CAP1[0] (io), 33 P1[19]/CAP1[1] (io), 34 P1[20]/PWM1[2]/SCK0 (io), 35 P1[21]/PWM1[3]/SSEL0 (io), 36 P1[22]/MAT1[0] (io), 37 P1[23]/PWM1[4]/MISO0 (io), 38 P1[24]/PWM1[5]/MOSI0 (io), 39 P1[25]/MAT1[1] (io), 40 P1[26]/PWM1[6]/CAP0[0] (io), 43 P1[27]/CAP0[1] (io), 44 P1[28]/PCAP1[0]/MAT0[0] (io), 45 P1[29]/PCAP1[1]/MAT0[1] (io), 46 P0[0]/RD1/TXD3/SDA1 (io), 47 P0[1]/TD1/RXD3/SCL1 (io), 48 P0[10]/TXD2/SDA2/MAT3[0] (io), 49 P0[11]/RXD2/SCL2/MAT3[1] (io), 50 P2[13]/~{EINT}3/MCIDAT3/I2STX_SDA (io), 51 P2[12]/~{EINT}2/MCIDAT2/I2STX_WS (io), 52 P2[11]/~{EINT}1/MCIDAT1/I2STX_CLK (io), 53 P2[10]/~{EINT}0 (io), 56 P0[22]/RTS1/MCIDAT0/TD1 (io), 57 P0[21]/RI1/MCIPWR/RD1 (io), 58 P0[20]/DTR1/MCICMD/SCL1 (io), 59 P0[19]/DSR1/MCICLK/SDA1 (io), 60 P0[18]/DCD1/MOSI0/MOSI (io), 61 P0[17]/CTS1/MISO0/MISO (io), 62 P0[15]/TXD1/SCK0/SCK (io), 63 P0[16]/RXD1/SSEL0/SSEL (io), 64 P2[9]/USB_CONNECT/RXD2/EXTIN0 (io), 65 P2[8]/TD2/TXD2/TRACEPKT3 (io), 66 P2[7]/RD2/RTS1/TRACEPKT2 (io), 67 P2[6]/PCAP1[0]/RI1/TRACEPKT1 (io), 68 P2[5]/PWM1[6]/DTR1/TRACEPKT0 (io), 69 P2[4]/PWM1[5]/DSR1/TRACESYNC (io), 70 P2[3]/PWM1[4]/DCD1/PIPESTAT2 (io), 73 P2[2]/PWM1[3]/CTS1/PIPESTAT1 (io), 74 P2[1]/PWM1[2]/RXD1/PIPESTAT0 (io), 75 P2[0]/PWM1[1]/TXD1/TRACECLK (io), 76 P0[9]/I2STX_SDA/MOSI1/MAT2[3] (io), 77 P0[8]/I2STX_WS/MISO1/MAT2[2] (io), 78 P0[7]/I2STX_CLK/SCK1/MAT2[1] (io), 79 P0[6]/I2SRX_SDA/SSEL1/MAT2[0] (io), 80 P0[5]/I2SRX_WS/TD2/CAP2[1] (io), 81 P0[4]/I2SRX_CLK/RD2/CAP2[0] (io), 82 P4[28]/MAT2[0]/TXD3 (io), 85 P4[29]/MAT2[1]/RXD3 (io), 86 P1[17]/ENET_MDIO (io), 87 P1[16]/ENET_MDC (io), 88 P1[15]/ENET_REF_CLK (io), 89 P1[14]/ENET_RX_ER (io), 90 P1[10]/ENET_RXD1 (io), 91 P1[9]/ENET_RXD0 (io), 92 P1[8]/ENET_CRS (io), 93 P1[4]/ENET_TX_EN (io), 94 P1[1]/ENET_TXD1 (io), 95 P1[0]/ENET_TXD0 (io), 98 P0[2]/TXD0 (io), 99 P0[3]/RXD0 (io)
part B pins: 1 TDO (out), 2 TDI (in), 3 TMS (in), 4 ~{TRST} (in), 5 TCK (in), 100 RTCK (io)
part C pins: 14 ~{RSTOUT} (out), 16 RTCX1 (in), 17 ~{RESET} (in), 18 RTCX2 (out), 22 XTAL1 (in), 23 XTAL2 (out)
part D pins: 10 VDDA (power), 11 VSSA (power), 12 VREF (in), 13 VDD(DCDC)(3V3) (power), 15 VSS (power), 19 VBAT (power), 28 VDD(3V3) (power), 31 VSS (power), 41 VSS (power), 42 VDD(DCDC)(3V3) (power), 54 VDD(3V3) (power), 55 VSS (power), 71 VDD(3V3) (power), 72 VSS (power), 83 VSS (power), 84 VDD(DCDC)(3V3) (power), 96 VDD(3V3) (power), 97 VSS (power)

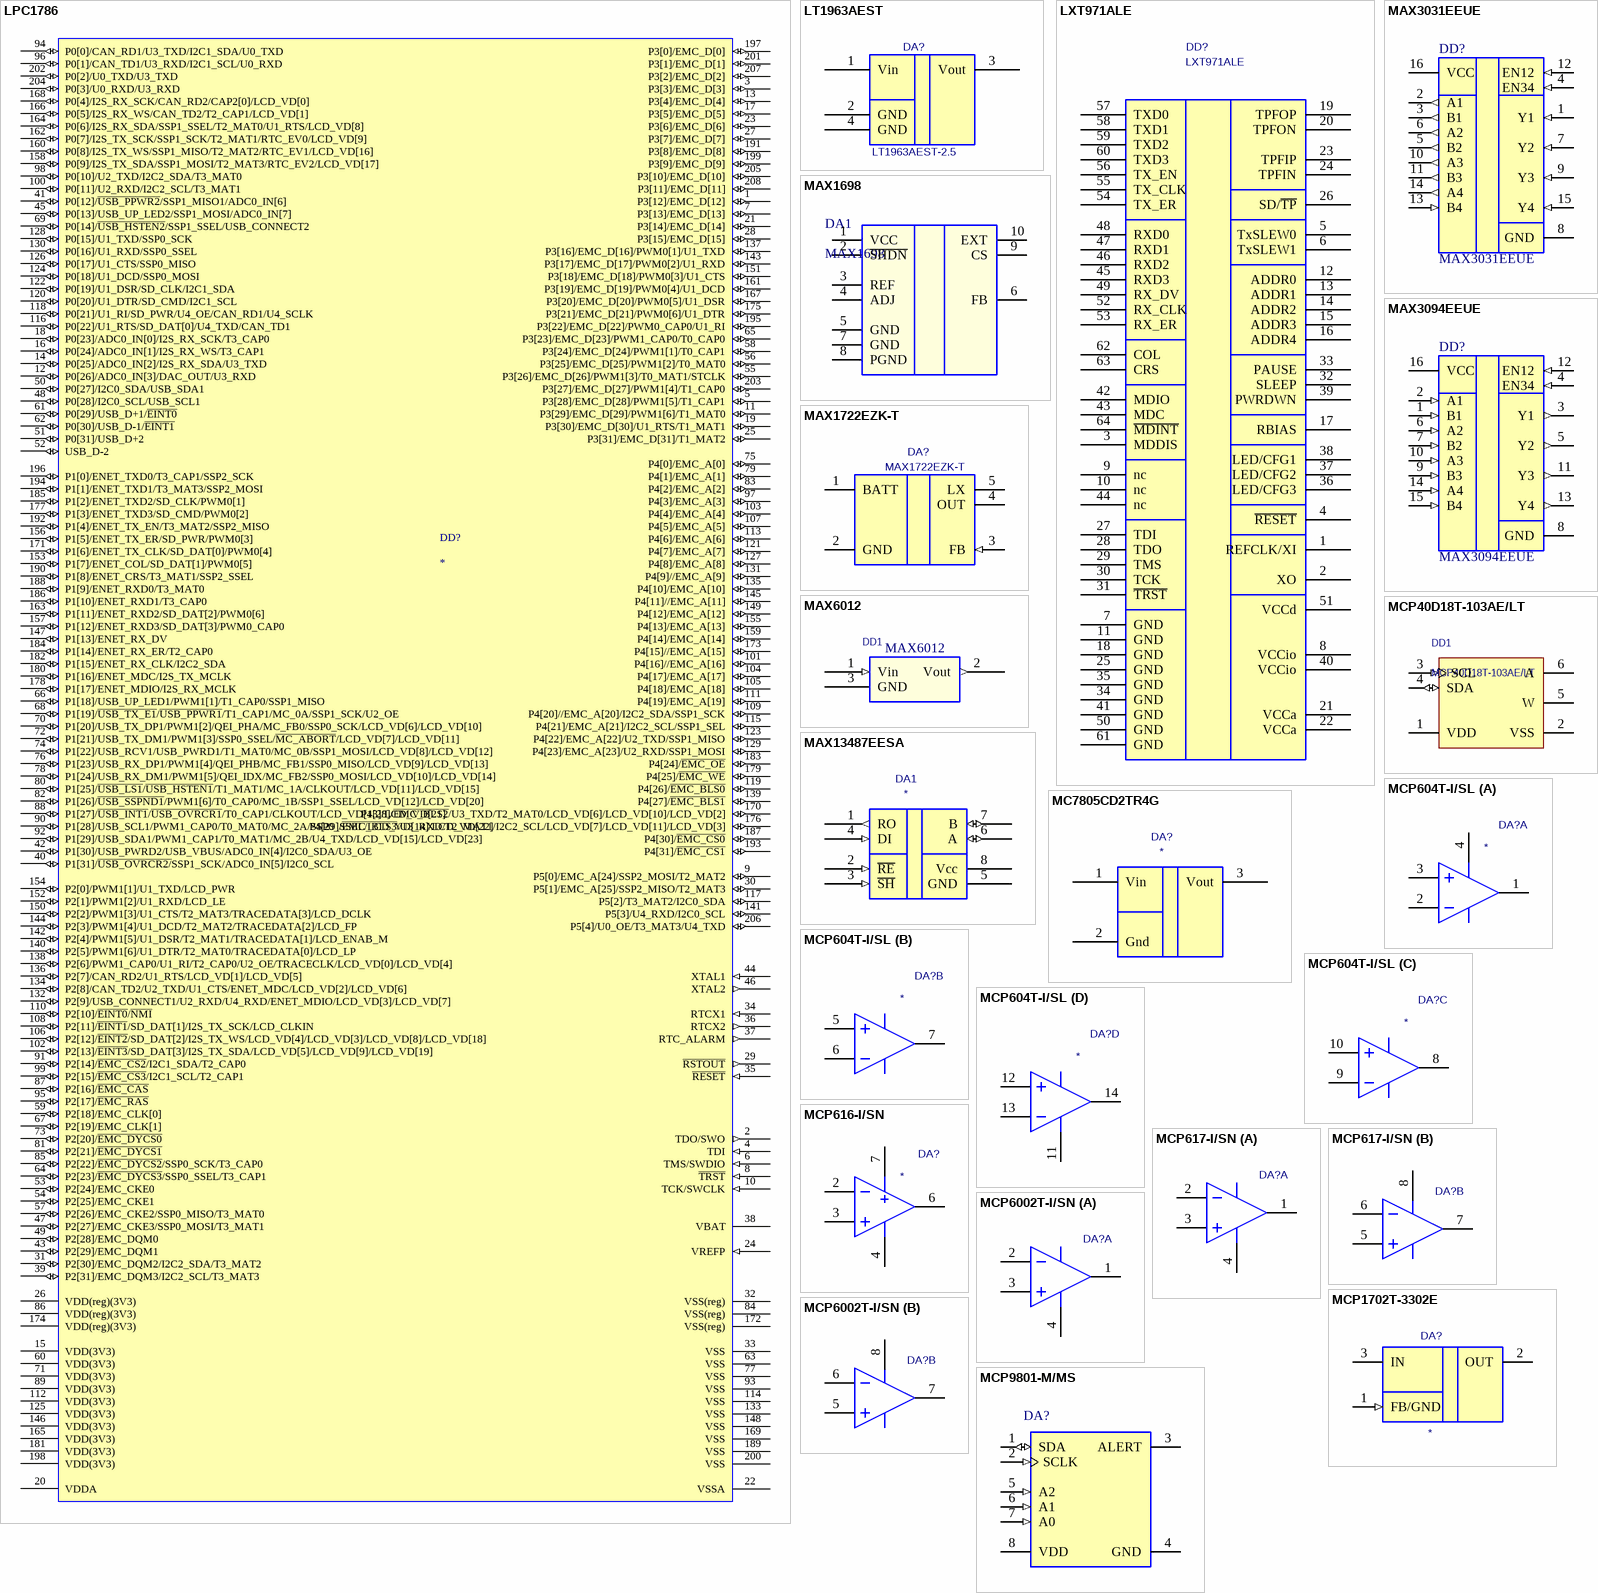
[diagram p5: symbols LPC1786 to MCP9801-M/MS]

## LPC1786
designator DD?
ARM Cortex-M3 32-Bit Microcontroller, 512KB Flash, 96KB RAM, 2 Channel CAN, 208-Lead LQFP; Value: *
3D model LPC2368-QFP100 (PCB3D Model)
footprint LQFP208 (TSQFP, 208-Leads, Body 30,6x30,6mm (max), Pitch 0,50mm, IPC Medium Density)
pins: 1 P3[12]/EMC_D[12] (io), 2 TDO/SWO (out), 3 P3[3]/EMC_D[3] (io), 4 TDI (in), 5 P3[28]/EMC_D[28]/PWM1[5]/T1_CAP1 (io), 6 TMS/SWDIO (in), 7 P3[13]/EMC_D[13] (io), 8 ~{TRST} (in), 9 P5[0]/EMC_A[24]/SSP2_MOSI/T2_MAT2 (io), 10 TCK/SWCLK (in), 11 P3[29]/EMC_D[29]/PWM1[6]/T1_MAT0 (io), 12 P0[26]/ADC0_IN[3]/DAC_OUT/U3_RXD (io), 13 P3[4]/EMC_D[4] (io), 14 P0[25]/ADC0_IN[2]/I2S_RX_SDA/U3_TXD (io), 15 VDD(3V3) (power), 16 P0[24]/ADC0_IN[1]/I2S_RX_WS/T3_CAP1 (io), 17 P3[5]/EMC_D[5] (io), 18 P0[23]/ADC0_IN[0]/I2S_RX_SCK/T3_CAP0 (io), 19 P3[30]/EMC_D[30]/U1_RTS/T1_MAT1 (io), 20 VDDA (power), 21 P3[14]/EMC_D[14] (io), 22 VSSA (power), 23 P3[6]/EMC_D[6] (io), 24 VREFP (in), 25 P3[31]/EMC_D[31]/T1_MAT2 (io), 26 VDD(reg)(3V3) (power), 27 P3[7]/EMC_D[7] (io), 28 P3[15]/EMC_D[15] (io), 29 ~{RSTOUT} (out), 30 P5[1]/EMC_A[25]/SSP2_MISO/T2_MAT3 (io), 31 P2[30]/EMC_DQM2/I2C2_SDA/T3_MAT2 (io), 32 VSS(reg) (power), 33 VSS (power), 34 RTCX1 (in), 35 ~{RESET} (in), 36 RTCX2 (out), 37 RTC_ALARM (out), 38 VBAT (power), 39 P2[31]/EMC_DQM3/I2C2_SCL/T3_MAT3 (io), 40 P1[31]/~{USB_OVRCR2/}SSP1_SCK/ADC0_IN[5]/I2C0_SCL (io), 41 P0[12]/~{USB_PPWR2}/SSP1_MISO1/ADC0_IN[6] (io), 42 P1[30]/USB_PWRD2/USB_VBUS/ADC0_IN[4]/I2C0_SDA/U3_OE (io), 43 P2[29]/EMC_DQM1 (io), 44 XTAL1 (in), 45 P0[13]/USB_UP_LED2/SSP1_MOSI/ADC0_IN[7] (io), 46 XTAL2 (out), 47 P2[27]/EMC_CKE3/SSP0_MOSI/T3_MAT1 (io), 48 P0[28]/I2C0_SCL/USB_SCL1 (io), 49 P2[28]/EMC_DQM0 (io), 50 P0[27]/I2C0_SDA/USB_SDA1 (io), 51 P0[31]/USB_D+2 (io), 52 USB_D-2 (io), 53 P2[24]/EMC_CKE0 (io), 54 P2[25]/EMC_CKE1 (io), 55 P3[26]/EMC_D[26]/PWM1[3]/T0_MAT1/STCLK (io), 56 P3[25]/EMC_D[25]/PWM1[2]/T0_MAT0 (io), 57 P2[26]/EMC_CKE2/SSP0_MISO/T3_MAT0 (io), 58 P3[24]/EMC_D[24]/PWM1[1]/T0_CAP1 (io), 59 P2[18]/EMC_CLK[0] (io), 60 VDD(3V3) (power), 61 P0[29]/USB_D+1/~{EINT0} (io), 62 P0[30]/USB_D-1/~{EINT1} (io), 63 VSS (power), 64 P2[23]/~{EMC_DYCS3}/SSP0_SSEL/T3_CAP1 (io), 65 P3[23]/EMC_D[23]/PWM1_CAP0/T0_CAP0 (io), 66 P1[18]/USB_UP_LED1/PWM1[1]/T1_CAP0/SSP1_MISO (io), 67 P2[19]/EMC_CLK[1] (io), 68 P1[19]/~{USB_TX_E1}/~{USB_PPWR1}/T1_CAP1/MC_0A/SSP1_SCK/U2_OE (io), 69 P0[14]/~{USB_HSTEN2}/SSP1_SSEL/USB_CONNECT2 (io), 70 P1[20]/USB_TX_DP1/PWM1[2]/QEI_PHA/MC_FB0/SSP0_SCK/LCD_VD[6]/LCD_VD[10] (io), 71 VDD(3V3) (power), 72 P1[21]/USB_TX_DM1/PWM1[3]/SSP0_SSEL/~{MC_ABORT}/LCD_VD[7]/LCD_VD[11] (io), 73 P2[20]/~{EMC_DYCS0} (io), 74 P1[22]/USB_RCV1/USB_PWRD1/T1_MAT0/MC_0B/SSP1_MOSI/LCD_VD[8]/LCD_VD[12] (io), 75 P4[0]/EMC_A[0] (io), 76 P1[23]/USB_RX_DP1/PWM1[4]/QEI_PHB/MC_FB1/SSP0_MISO/LCD_VD[9]/LCD_VD[13] (io), 77 VSS (power), 78 P1[24]/USB_RX_DM1/PWM1[5]/QEI_IDX/MC_FB2/SSP0_MOSI/LCD_VD[10]/LCD_VD[14] (io), 79 P4[1]/EMC_A[1] (io), 80 P1[25]/~{USB_LS1}/~{USB_HSTEN1}/T1_MAT1/MC_1A/CLKOUT/LCD_VD[11]/LCD_VD[15] (io), 81 P2[21]/~{EMC_DYCS1} (io), 82 P1[26]/~{USB_SSPND1}/PWM1[6]/T0_CAP0/MC_1B/SSP1_SSEL/LCD_VD[12]/LCD_VD[20] (io), 83 P4[2]/EMC_A[2] (io), 84 VSS(reg) (power), 85 P2[22]/~{EMC_DYCS2}/SSP0_SCK/T3_CAP0 (io), 86 VDD(reg)(3V3) (power), 87 P2[16]/~{EMC_CAS} (io), 88 P1[27]/~{USB_INT1}/~{USB_OVRCR1}/T0_CAP1/CLKOUT/LCD_VD[13]/LCD_VD[21] (io), 89 VDD(3V3) (power), 90 P1[28]/USB_SCL1/PWM1_CAP0/T0_MAT0/MC_2A/SSP0_SSEL/LCD_VD[14]/LCD_VD[22] (io), 91 P2[14]/~{EMC_CS2}/I2C1_SDA/T2_CAP0 (io), 92 P1[29]/USB_SDA1/PWM1_CAP1/T0_MAT1/MC_2B/U4_TXD/LCD_VD[15]/LCD_VD[23] (io), 93 VSS (power), 94 P0[0]/CAN_RD1/U3_TXD/I2C1_SDA/U0_TXD (io), 95 P2[17]/~{EMC_RAS} (io), 96 P0[1]/CAN_TD1/U3_RXD/I2C1_SCL/U0_RXD (io), 97 P4[3]/EMC_A[3] (io), 98 P0[10]/U2_TXD/I2C2_SDA/T3_MAT0 (io), 99 P2[15]/~{EMC_CS3}/I2C1_SCL/T2_CAP1 (io), 100 P0[11]/U2_RXD/I2C2_SCL/T3_MAT1 (io), 101 P4[16]//EMC_A[16] (io), 102 P2[13]/~{EINT3}/SD_DAT[3]/I2S_TX_SDA/LCD_VD[5]/LCD_VD[9]/LCD_VD[19] (io), 103 P4[4]/EMC_A[4] (io), 104 P4[17]/EMC_A[17] (io), 105 P4[18]/EMC_A[18] (io), 106 P2[12]/~{EINT2}/SD_DAT[2]/I2S_TX_WS/LCD_VD[4]/LCD_VD[3]/LCD_VD[8]/LCD_VD[18] (io), 107 P4[5]/EMC_A[5] (io), 108 P2[11]/~{EINT1}/SD_DAT[1]/I2S_TX_SCK/LCD_CLKIN (io), 109 P4[20]//EMC_A[20]/I2C2_SDA/SSP1_SCK (io), 110 P2[10]/~{EINT0}/~{NMI} (io), 111 P4[19]/EMC_A[19] (io), 112 VDD(3V3) (power), 113 P4[6]/EMC_A[6] (io), 114 VSS (power), 115 P4[21]/EMC_A[21]/I2C2_SCL/SSP1_SEL (io), 116 P0[22]/U1_RTS/SD_DAT[0]/U4_TXD/CAN_TD1 (io), 117 P5[2]/T3_MAT2/I2C0_SDA (io), 118 P0[21]/U1_RI/SD_PWR/U4_OE/CAN_RD1/U4_SCLK (io), 119 P4[26]/~{EMC_BLS0} (io), 120 P0[20]/U1_DTR/SD_CMD/I2C1_SCL (io), 121 P4[7]/EMC_A[7] (io), 122 P0[19]/U1_DSR/SD_CLK/I2C1_SDA (io), 123 P4[22]/EMC_A[22]/U2_TXD/SSP1_MISO (io), 124 P0[18]/U1_DCD/SSP0_MOSI (io), 125 VDD(3V3) (power), 126 P0[17]/U1_CTS/SSP0_MISO (io), 127 P4[8]/EMC_A[8] (io), 128 P0[15]/U1_TXD/SSP0_SCK (io), 129 P4[23]/EMC_A[23]/U2_RXD/SSP1_MOSI (io), 130 P0[16]/U1_RXD/SSP0_SSEL (io), 131 P4[9]//EMC_A[9] (io), 132 P2[9]/USB_CONNECT1/U2_RXD/U4_RXD/ENET_MDIO/LCD_VD[3]/LCD_VD[7] (io), 133 VSS (power), 134 P2[8]/CAN_TD2/U2_TXD/U1_CTS/ENET_MDC/LCD_VD[2]/LCD_VD[6] (io), 135 P4[10]/EMC_A[10] (io), 136 P2[7]/CAN_RD2/U1_RTS/LCD_VD[1]/LCD_VD[5] (io), 137 P3[16]/EMC_D[16]/PWM0[1]/U1_TXD (io), 138 P2[6]/PWM1_CAP0/U1_RI/T2_CAP0/U2_OE/TRACECLK/LCD_VD[0]/LCD_VD[4] (io), 139 P4[27]/~{EMC_BLS1} (io), 140 P2[5]/PWM1[6]/U1_DTR/T2_MAT0/TRACEDATA[0]/LCD_LP (io), 141 P5[3]/U4_RXD/I2C0_SCL (io), 142 P2[4]/PWM1[5]/U1_DSR/T2_MAT1/TRACEDATA[1]/LCD_ENAB_M (io), 143 P3[17]/EMC_D[17]/PWM0[2]/U1_RXD (io), 144 P2[3]/PWM1[4]/U1_DCD/T2_MAT2/TRACEDATA[2]/LCD_FP (io), 145 P4[11]//EMC_A[11] (io), 146 VDD(3V3) (power), 147 P1[13]/ENET_RX_DV (io), 148 VSS (power), 149 P4[12]/EMC_A[12] (io), 150 P2[2]/PWM1[3]/U1_CTS/T2_MAT3/TRACEDATA[3]/LCD_DCLK (io), 151 P3[18]/EMC_D[18]/PWM0[3]/U1_CTS (io), 152 P2[1]/PWM1[2]/U1_RXD/LCD_LE (io), 153 P1[7]/ENET_COL/SD_DAT[1]/PWM0[5] (io), 154 P2[0]/PWM1[1]/U1_TXD/LCD_PWR (io), 155 P4[13]/EMC_A[13] (io), 156 P1[5]/ENET_TX_ER/SD_PWR/PWM0[3] (io), 157 P1[12]/ENET_RXD3/SD_DAT[3]/PWM0_CAP0 (io), 158 P0[9]/I2S_TX_SDA/SSP1_MOSI/T2_MAT3/RTC_EV2/LCD_VD[17] (io), 159 P4[14]/EMC_A[14] (io), 160 P0[8]/I2S_TX_WS/SSP1_MISO/T2_MAT2/RTC_EV1/LCD_VD[16] (io), 161 P3[19]/EMC_D[19]/PWM0[4]/U1_DCD (io), 162 P0[7]/I2S_TX_SCK/SSP1_SCK/T2_MAT1/RTC_EV0/LCD_VD[9] (io), 163 P1[11]/ENET_RXD2/SD_DAT[2]/PWM0[6] (io), 164 P0[6]/I2S_RX_SDA/SSP1_SSEL/T2_MAT0/U1_RTS/LCD_VD[8] (io), 165 VDD(3V3) (power), 166 P0[5]/I2S_RX_WS/CAN_TD2/T2_CAP1/LCD_VD[1] (io), 167 P3[20]/EMC_D[20]/PWM0[5]/U1_DSR (io), 168 P0[4]/I2S_RX_SCK/CAN_RD2/CAP2[0]/LCD_VD[0] (io), 169 VSS (power), 170 P4[28]/~{EMC_BLS2}/U3_TXD/T2_MAT0/LCD_VD[6]/LCD_VD[10]/LCD_VD[2] (io), 171 P1[6]/ENET_TX_CLK/SD_DAT[0]/PWM0[4] (io), 172 VSS(reg) (power), 173 P4[15]//EMC_A[15] (io), 174 VDD(reg)(3V3) (power), 175 P3[21]/EMC_D[21]/PWM0[6]/U1_DTR (io), 176 P4[29]/~{EMC_BLS3}/U3_RXD/T2_MAT1/I2C2_SCL/LCD_VD[7]/LCD_VD[11]/LCD_VD[3] (io), 177 P1[3]/ENET_TXD3/SD_CMD/PWM0[2] (io), 178 P1[17]/ENET_MDIO/I2S_RX_MCLK (io), 179 P4[25]/~{EMC_WE} (io), 180 P1[16]/ENET_MDC/I2S_TX_MCLK (io), 181 VDD(3V3) (power), 182 P1[15]/ENET_RX_CLK/I2C2_SDA (io), 183 P4[24]/~{EMC_OE} (io), 184 P1[14]/ENET_RX_ER/T2_CAP0 (io), 185 P1[2]/ENET_TXD2/SD_CLK/PWM0[1] (io), 186 P1[10]/ENET_RXD1/T3_CAP0 (io), 187 P4[30]/~{EMC_CS0} (io), 188 P1[9]/ENET_RXD0/T3_MAT0 (io), 189 VSS (power), 190 P1[8]/ENET_CRS/T3_MAT1/SSP2_SSEL (io), 191 P3[8]/EMC_D[8] (io), 192 P1[4]/ENET_TX_EN/T3_MAT2/SSP2_MISO (io), 193 P4[31]/~{EMC_CS1} (io), 194 P1[1]/ENET_TXD1/T3_MAT3/SSP2_MOSI (io), 195 P3[22]/EMC_D[22]/PWM0_CAP0/U1_RI (io), 196 P1[0]/ENET_TXD0/T3_CAP1/SSP2_SCK (io), 197 P3[0]/EMC_D[0] (io), 198 VDD(3V3) (power), 199 P3[9]/EMC_D[9] (io), 200 VSS (power), 201 P3[1]/EMC_D[1] (io), 202 P0[2]/U0_TXD/U3_TXD (io), 203 P3[27]/EMC_D[27]/PWM1[4]/T1_CAP0 (io), 204 P0[3]/U0_RXD/U3_RXD (io), 205 P3[10]/EMC_D[10] (io), 206 P5[4]/U0_OE/T3_MAT3/U4_TXD (io), 207 P3[2]/EMC_D[2] (io), 208 P3[11]/EMC_D[11] (io)

## LT1963AEST
designator DA?, comment LT1963AEST-2.5
1.5A, Low-Dropout Regulator, Low Noise,  Fast Transient Response, -40/+125; Value: LT1963AEST-2.5
footprint SOT-223
pins: 1 Vin, 2 GND, 3 Vout, 4 GND

## LXT971ALE
designator DD?
3.3V Dual-Speed Fast Ethernet PHY Transceiver; Value: *
footprint LQFP64_L (Thin QFP, 64-Leads, Body 10x10mm, Pitch 0.5mm, IPC High Density)
pins: 1 REFCLK/XI, 2 XO, 3 MDDIS, 4 ~{RESET}, 5 TxSLEW0, 6 TxSLEW1, 7 GND, 8 VCCio, 9 nc, 10 nc, 11 GND, 12 ADDR0, 13 ADDR1, 14 ADDR2, 15 ADDR3, 16 ADDR4, 17 RBIAS, 18 GND, 19 TPFOP, 20 TPFON, 21 VCCa, 22 VCCa, 23 TPFIP, 24 TPFIN, 25 GND, 26 SD/~{TP}, 27 TDI, 28 TDO, 29 TMS, 30 TCK, 31 ~{TRST}, 32 SLEEP, 33 PAUSE, 34 GND, 35 GND, 36 LED/CFG3, 37 LED/CFG2, 38 LED/CFG1, 39 PWRDWN, 40 VCCio, 41 GND, 42 MDIO, 43 MDC, 44 nc, 45 RXD3, 46 RXD2, 47 RXD1, 48 RXD0, 49 RX_DV, 50 GND, 51 VCCd, 52 RX_CLK, 53 RX_ER, 54 TX_ER, 55 TX_CLK, 56 TX_EN, 57 TXD0, 58 TXD1, 59 TXD2, 60 TXD3, 61 GND, 62 COL, 63 CRS, 64 ~{MDINT}

## MAX1698
designator DA1
High-Efficiency Step-Up Current Regulator for LEDs; Value: MAX1698
footprint MSOP10
pins: 1 VCC, 2 ~{SHDN}, 3 REF, 4 ADJ, 5 GND, 6 FB, 7 GND, 8 PGND, 9 CS, 10 EXT

## MAX1722EZK-T
designator DA?
Step-Up DC-DC Converters  in Thin SOT23-5, 1.5uA IQ
footprint SOT-23-5
pins: 1 BATT (power), 2 GND, 3 FB (in), 4 OUT (power), 5 LX

## MAX3031EEUE
designator DD?
Quad RS-422 Transmiters, ±15kV ESD-Protected, 2Mbps, 3.3V; Value: *
footprint TSSOP16 (TSSOP, 16-Leads, Body 5x4.4mm, Pitch 0.65mm, IPC High Density)
pins: 1 Y1 (in), 2 A1 (out), 3 B1 (out), 4 EN34 (in), 5 B2 (out), 6 A2 (out), 7 Y2 (in), 8 GND (power), 9 Y3 (in), 10 A3 (out), 11 B3 (out), 12 EN12 (in), 13 B4 (in), 14 A4 (out), 15 Y4 (in), 16 VCC (power)

## MAX3094EEUE
designator DD?
Quad RS-422/RS-485 Receivers, ±15kV ESD-Protected, 10Mbps, 3.3V; Value: *
footprint TSSOP16 (TSSOP, 16-Leads, Body 5x4.4mm, Pitch 0.65mm, IPC High Density)
pins: 1 B1 (in), 2 A1 (in), 3 Y1 (out), 4 EN34 (in), 5 Y2 (out), 6 A2 (in), 7 B2 (in), 8 GND (power), 9 B3 (in), 10 A3 (in), 11 Y3 (out), 12 EN12 (in), 13 Y4 (out), 14 A4 (in), 15 B4 (in), 16 VCC (power)

## MAX6012
designator DD1
MAX6012/MAX6021/MAX6025/MAX6030/MAX6041/MAX6045/MAX6050 precision, low-dropout, micropower VREF; Value: MAX6012
footprint SOT-23 (SOT23, 3-Leads, Body 2.9x1.3mm, Pitch 0.95mm, Lead Span 2.5mm, IPC High Density)
pins: 1 Vin (in), 2 Vout (out), 3 GND

## MAX13487EESA
designator DA1
Half-Duplex RS-485 Compatible  Transceiver with AutoDirection Control
footprint SO8
pins: 1 RO (out), 2 ~{RE} (in), 3 ~{SH} (in), 4 DI (in), 5 GND (power), 6 A (io), 7 B (io), 8 Vcc (power)

## MC7805CD2TR4G
designator DA?
5V, 1A Positive Voltage  Regulators
footprint D2P
pins: 1 Vin, 2 Gnd, 3 Vout

## MCP40D18T-103AE/LT
designator DD1
7-Bit Single I2C (with Command Code) Digital POT with Volatile Memory, 6-pin SC70, Extended Temperature, Tape and Reel
footprint SC70-LT6_M (SOT363, 6-Leads, Body 2x1.3mm, Pitch 0.65mm, Lead Span 2.1mm, IPC Low Density)
pins: 1 VDD (power), 2 VSS (power), 3 SCL (in), 4 SDA (io), 5 W, 6 A

## MCP604T-I/SL
designator DA?
Op Amps ,Rail-to-Rail, 2.7V to 5.5V Single-Supply CMOS
footprint SO14
part A pins: 1 OUT, 2 IN-, 3 IN+, 4 V+
part B pins: 5 IN+, 6 IN-, 7 OUT
part C pins: 8 OUT, 9 IN-, 10 IN+
part D pins: 11 V-, 12 IN+, 13 IN-, 14 OUT

## MCP616-I/SN
designator DA?
Operational Amplifier, Single-Supply, Rail-to-Rail, Voff 700uV; Value: *
footprint SO8
pins: 1 hidden, 2 IN-, 3 IN+, 4 V-, 5 hidden, 6 OUT, 7 V+, 8 hidden

## MCP617-I/SN
designator DA?
Operational Amplifier, Voff 700uV
footprint SO8
part A pins: 1 OUT, 2 IN-, 3 IN+, 4 V-
part B pins: 5 IN+, 6 IN-, 7 OUT, 8 V+

## MCP1702T-3302E
designator DA?
250 mA, 2%, Low-Dropout Regulator
footprint SOT-23
pins: 1 FB/GND (in), 2 OUT (power), 3 IN (power)

## MCP6002T-I/SN
designator DA?
Operational Amplifier, Rail-to-Rail, Voff 4mV
footprint SO8
part A pins: 1 OUT, 2 IN-, 3 IN+, 4 V-
part B pins: 5 IN+, 6 IN-, 7 OUT, 8 V+

## MCP9801-M/MS
designator DA?
2-Wire High-Accuracy Temperature Sensor, 8-Pin MSOP, -55°C to +125°C Temperature; FirstPublished: 29-Jan-2009; DatasheetVersion: revB, Sep-2004; PackageVersion: revBB, Aug-2009; PackageReference: MSOP-MS8; Publisher: Altium Limited; PackageDescription: 8-Lead Plastic Micro Small Outline Package (MS) [MSOP]; Supplier 1: Digi-Key; Supplier Part Number 1: MCP9801-M/MS-ND; Supplier 2: Farnell; Supplier Part Number 2: 1605578; ComponentLink1Description: Datasheet; ComponentLink1URL: http://ww1.microchip.com/downloads/en/DeviceDoc/21909b.pdf; ComponentLink2Description: Packaging Specification; ComponentLink2URL: http://www.microchip.com/stellent/groups/techpub_sg/documents/packagingspec/en012702.pdf; ComponentLink3Description: Microchip.com Home; ComponentLink3URL: http://www.microchip.com/
footprint MSOP-MS8_N (TSOP, 8-Leads, Body 3x3mm, Pitch 0.65mm, IPC Medium Density)
footprint MSOP-MS8_L (TSOP, 8-Leads, Body 3x3mm, Pitch 0.65mm, IPC High Density)
pins: 1 SDA (io), 2 SCLK (in), 3 ALERT (oc), 4 GND (power), 5 A2 (in), 6 A1 (in), 7 A0 (in), 8 VDD (power)

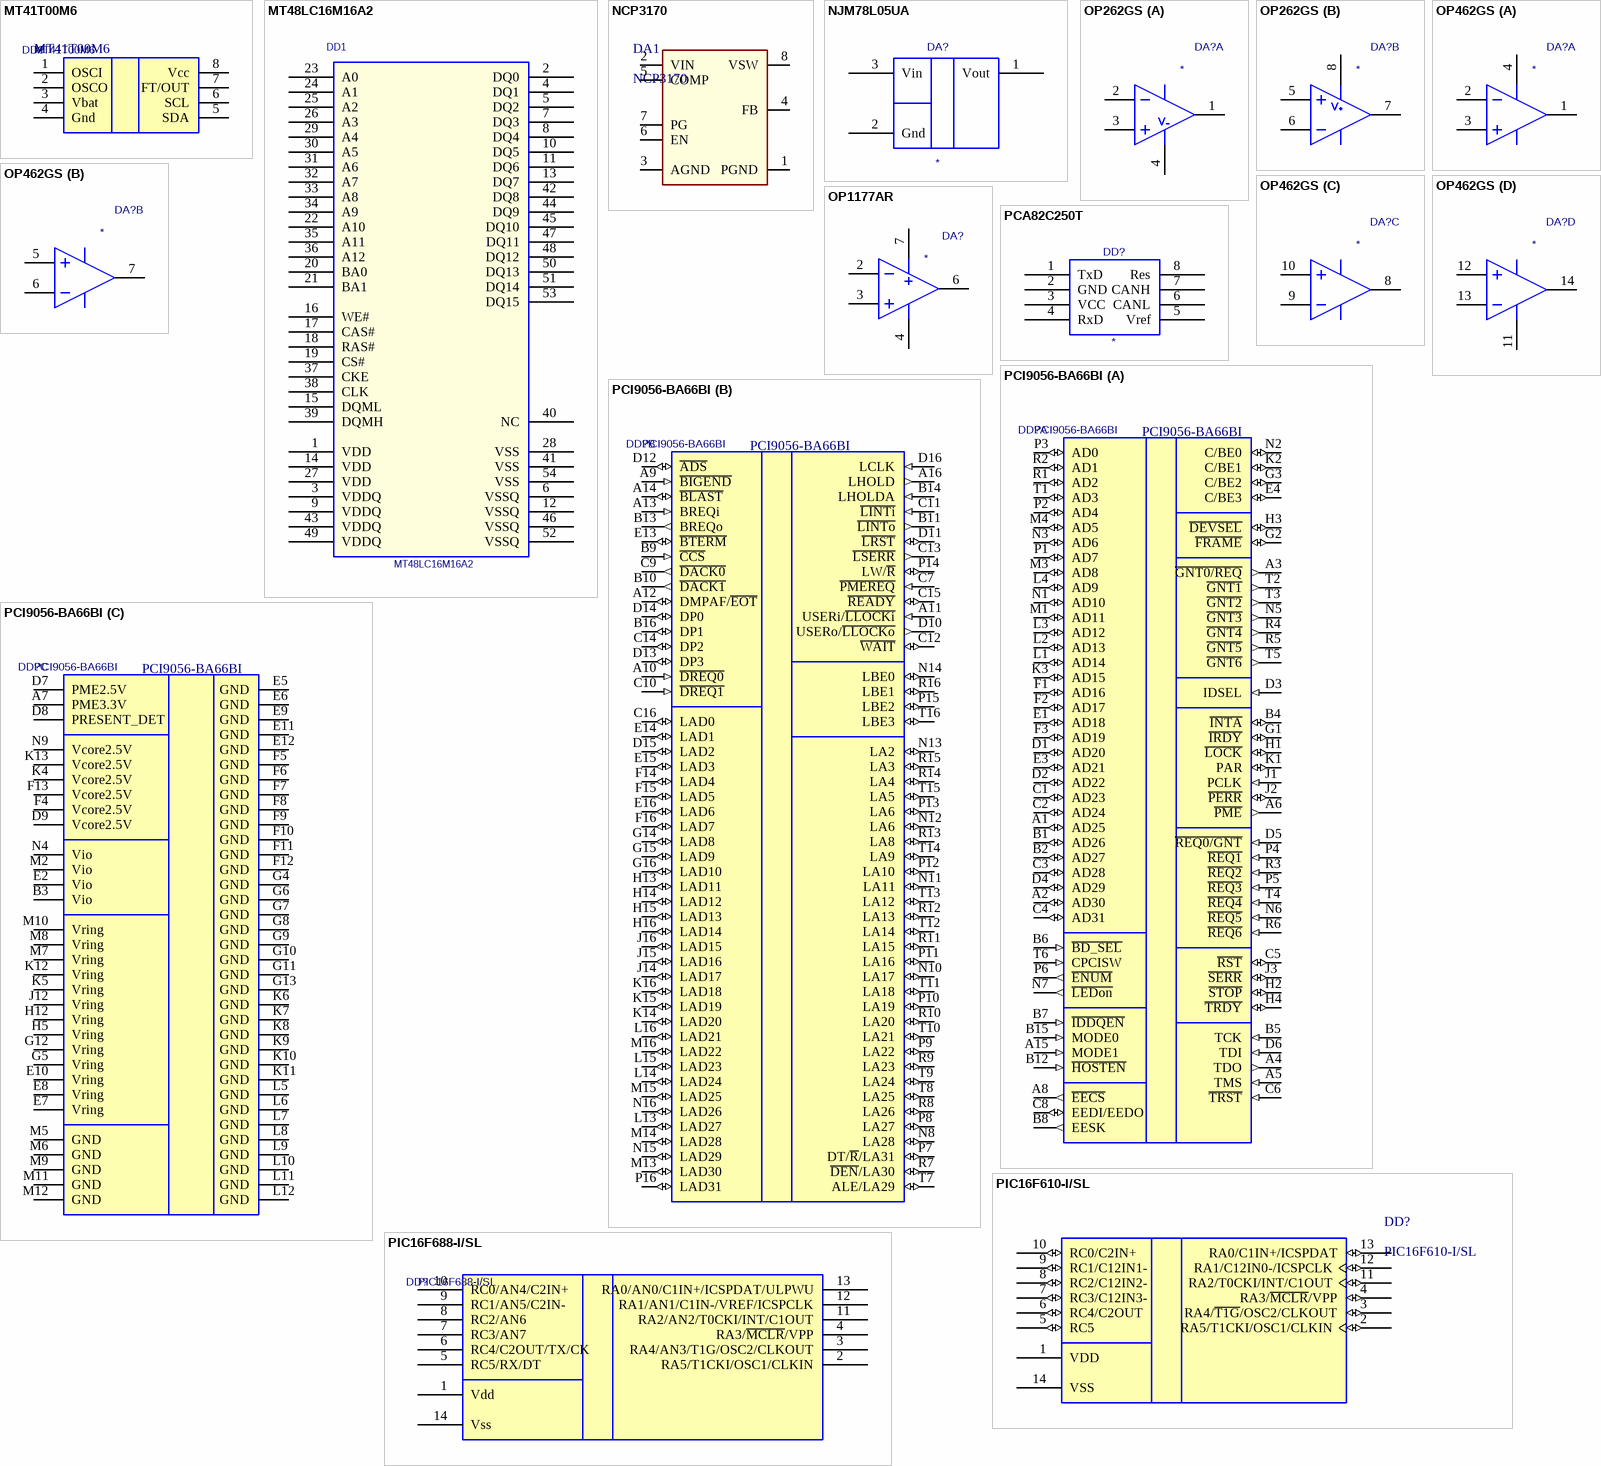
[diagram p6: symbols MT41T00M6 to PIC16F688-I/SL]

## MT41T00M6
designator DD?
Serial real-time clock; Value: MT41T00M6
footprint SO8 (SOIC, 8-Leads, Body 4.9x3.9mm, Pitch 1.27mm, IPC High Density)
pins: 1 OSCI, 2 OSCO, 3 Vbat, 4 Gnd, 5 SDA, 6 SCL, 7 FT/OUT, 8 Vcc

## MT48LC16M16A2
designator DD1
Synchronous DRAM 4 Mb x 16 x 4 banks (256 Mb); Value: MT48LC16M16A2
footprint TSOP54N (TSOP, 54-Leads, Body 22,3x10,2mm (max), Pitch 0,80mm, IPC Medium Density)
pins: 1 VDD, 2 DQ0, 3 VDDQ, 4 DQ1, 5 DQ2, 6 VSSQ, 7 DQ3, 8 DQ4, 9 VDDQ, 10 DQ5, 11 DQ6, 12 VSSQ, 13 DQ7, 14 VDD, 15 DQML, 16 WE#, 17 CAS#, 18 RAS#, 19 CS#, 20 BA0, 21 BA1, 22 A10, 23 A0, 24 A1, 25 A2, 26 A3, 27 VDD, 28 VSS, 29 A4, 30 A5, 31 A6, 32 A7, 33 A8, 34 A9, 35 A11, 36 A12, 37 CKE, 38 CLK, 39 DQMH, 40 NC, 41 VSS, 42 DQ8, 43 VDDQ, 44 DQ9, 45 DQ10, 46 VSSQ, 47 DQ11, 48 DQ12, 49 VDDQ, 50 DQ13, 51 DQ14, 52 VSSQ, 53 DQ15, 54 VSS

## NCP3170
designator DA1
Synchronous PWM Switching Converter
footprint SO8 (SOIC, 8-Leads, Body 4.9x3.9mm, Pitch 1.27mm, IPC High Density)
pins: 1 PGND, 2 VIN, 3 AGND, 4 FB, 5 COMP, 6 EN, 7 PG, 8 VSW

## NJM78L05UA
designator DA?
NJM78L05UA; Value: *
footprint SOT89
pins: 1 Vout, 2 Gnd, 3 Vin

## OP262GS
designator DA?
Operational Amplifier; Value: *
footprint SO8
part A pins: 1 OUT, 2 IN-, 3 IN+, 4 V-
part B pins: 5 IN+, 6 IN-, 7 OUT, 8 V+

## OP462GS
designator DA?
Operational Amplifiers; Value: *
footprint SO14
part A pins: 1 OUT, 2 IN-, 3 IN+, 4 V+
part B pins: 5 IN+, 6 IN-, 7 OUT
part C pins: 8 OUT, 9 IN-, 10 IN+
part D pins: 11 V-, 12 IN+, 13 IN-, 14 OUT

## OP1177AR
designator DA?
Operational Amplifier,  Precision Low Noise, Low Input Bias Current; Value: *
footprint SO8
pins: 1 hidden, 2 IN-, 3 IN+, 4 V-, 5 hidden, 6 OUT, 7 V+, 8 hidden

## PCA82C250T
designator DD?
Philips CAN-bus transceiver; Value: *
footprint SO8
pins: 1 TxD, 2 GND, 3 VCC, 4 RxD, 5 Vref, 6 CANL, 7 CANH, 8 Res

## PCI9056-BA66BI
designator DD?
66 MHz, PCI Bus Mastering I/O Accelerator; Value: PCI9056-BA66BI
footprint FPBGA256 (256-Ball Fine Pitch Ball Grid Array (FG256))
part A pins: A1 AD25 (io), A2 AD30 (io), A3 ~{GNT0/REQ} (out), A4 TDO (out), A5 TMS (in), A6 ~{PME} (out), A8 ~{EECS} (out), A15 MODE1 (in), B1 AD26 (io), B2 AD27 (io), B4 ~{INTA} (io), B5 TCK (in), B6 ~{BD_SEL} (in), B7 ~{IDDQEN} (in), B8 EESK (out), B12 ~{HOSTEN} (in), B15 MODE0 (in), C1 AD23 (io), C2 AD24 (io), C3 AD28 (io), C4 AD31 (io), C5 ~{RST} (io), C6 ~{TRST} (in), C8 EEDI/EEDO (io), D1 AD20 (io), D2 AD22 (io), D3 IDSEL (in), D4 AD29 (io), D5 ~{REQ0/GNT} (in), D6 TDI (in), E1 AD18 (io), E3 AD21 (io), E4 C/BE3 (io), F1 AD16 (io), F2 AD17 (io), F3 AD19 (io), G1 ~{IRDY} (io), G2 ~{FRAME} (io), G3 C/BE2 (io), H1 ~{LOCK} (io), H2 ~{STOP} (io), H3 ~{DEVSEL} (io), H4 ~{TRDY} (io), J1 PCLK (in), J2 ~{PERR} (io), J3 ~{SERR} (io), K1 PAR (io), K2 C/BE1 (io), K3 AD15 (io), L1 AD14 (io), L2 AD13 (io), L3 AD12 (io), L4 AD9 (io), M1 AD11 (io), M3 AD8 (io), M4 AD5 (io), N1 AD10 (io), N2 C/BE0 (io), N3 AD6 (io), N5 ~{GNT3} (out), N6 ~{REQ5} (in), N7 ~{LEDon} (out), P1 AD7 (io), P2 AD4 (io), P3 AD0 (io), P4 ~{REQ1} (in), P5 ~{REQ3} (in), P6 ~{ENUM} (out), R1 AD2 (io), R2 AD1 (io), R3 ~{REQ2} (in), R4 ~{GNT4} (out), R5 ~{GNT5} (out), R6 ~{REQ6} (in), T1 AD3 (io), T2 ~{GNT1} (out), T3 ~{GNT2} (out), T4 ~{REQ4} (in), T5 ~{GNT6} (out), T6 CPCISW (in)
part B pins: A9 ~{BIGEND} (in), A10 ~{DREQ0} (in), A11 USERi/~{LLOCKi} (in), A12 DMPAF/~{EOT} (io), A13 BREQi (in), A14 ~{BLAST} (io), A16 LHOLD (out), B9 ~{CCS} (in), B10 ~{DACK1} (out), B11 ~{LINTo} (out), B13 BREQo (out), B14 LHOLDA (in), B16 DP1 (io), C7 ~{PMEREQ} (in), C9 ~{DACK0} (out), C10 ~{DREQ1} (in), C11 ~{LINTi} (in), C12 ~{WAIT} (io), C13 ~{LSERR} (out), C14 DP2 (io), C15 ~{READY} (io), C16 LAD0 (io), D10 USERo/~{LLOCKo} (out), D11 ~{LRST} (io), D12 ~{ADS} (io), D13 DP3 (io), D14 DP0 (io), D15 LAD2 (io), D16 LCLK (in), E13 ~{BTERM} (io), E14 LAD1 (io), E15 LAD3 (io), E16 LAD6 (io), F14 LAD4 (io), F15 LAD5 (io), F16 LAD7 (io), G14 LAD8 (io), G15 LAD9 (io), G16 LAD10 (io), H13 LAD11 (io), H14 LAD12 (io), H15 LAD13 (io), H16 LAD14 (io), J14 LAD17 (io), J15 LAD16 (io), J16 LAD15 (io), K14 LAD20 (io), K15 LAD19 (io), K16 LAD18 (io), L13 LAD27 (io), L14 LAD24 (io), L15 LAD23 (io), L16 LAD21 (io), M13 LAD30 (io), M14 LAD28 (io), M15 LAD25 (io), M16 LAD22 (io), N8 LA28 (io), N10 LA17 (io), N11 LA11 (io), N12 LA6 (io), N13 LA2 (io), N14 LBE0 (io), N15 LAD29 (io), N16 LAD26 (io), P7 DT/~{R}/LA31 (io), P8 LA27 (io), P9 LA22 (io), P10 LA19 (io), P11 LA16 (io), P12 LA10 (io), P13 LA6 (io), P14 LW/~{R} (io), P15 LBE2 (io), P16 LAD31 (io), R7 ~{DEN}/LA30 (io), R8 LA26 (io), R9 LA23 (io), R10 LA20 (io), R11 LA15 (io), R12 LA13 (io), R13 LA8 (io), R14 LA4 (io), R15 LA3 (io), R16 LBE1 (io), T7 ALE/LA29 (io), T8 LA25 (io), T9 LA24 (io), T10 LA21 (io), T11 LA18 (io), T12 LA14 (io), T13 LA12 (io), T14 LA9 (io), T15 LA5 (io), T16 LBE3 (io)
part C pins: A7 PME3.3V (power), B3 Vio (power), D7 PME2.5V (power), D8 PRESENT_DET (power), D9 Vcore2.5V (power), E2 Vio (power), E5 GND (power), E6 GND (power), E7 Vring (power), E8 Vring (power), E9 GND (power), E10 Vring (power), E11 GND (power), E12 GND (power), F4 Vcore2.5V (power), F5 GND (power), F6 GND (power), F7 GND (power), F8 GND (power), F9 GND (power), F10 GND (power), F11 GND (power), F12 GND (power), F13 Vcore2.5V (power), G4 GND (power), G5 Vring (power), G6 GND (power), G7 GND (power), G8 GND (power), G9 GND (power), G10 GND (power), G11 GND (power), G12 Vring (power), G13 GND (power), H5 Vring (power), H12 Vring (power), J12 Vring (power), K4 Vcore2.5V (power), K5 Vring (power), K6 GND (power), K7 GND (power), K8 GND (power), K9 GND (power), K10 GND (power), K11 GND (power), K12 Vring (power), K13 Vcore2.5V (power), L5 GND (power), L6 GND (power), L7 GND (power), L8 GND (power), L9 GND (power), L10 GND (power), L11 GND (power), L12 GND (power), M2 Vio (power), M5 GND (power), M6 GND (power), M7 Vring (power), M8 Vring (power), M9 GND (power), M10 Vring (power), M11 GND (power), M12 GND (power), N4 Vio (power), N9 Vcore2.5V (power)

## PIC16F610-I/SL
designator DD?
8-Bit Flash Microcontroller CMOS Microcontroller, 1K (x14-Bit words) Program Memory, 64 Bytes Data Memory, 11 I/O pins, 14-Pin SOIC, Standard VDD Range, Industrial Temperature
footprint SO14
pins: 1 VDD (power), 2 RA5/T1CKI/OSC1/CLKIN (io), 3 RA4/~{T1G}/OSC2/CLKOUT (io), 4 RA3/~{MCLR}/VPP (io), 5 RC5 (io), 6 RC4/C2OUT (io), 7 RC3/C12IN3- (io), 8 RC2/C12IN2- (io), 9 RC1/C12IN1- (io), 10 RC0/C2IN+ (io), 11 RA2/T0CKI/INT/C1OUT (io), 12 RA1/C12IN0-/ICSPCLK (io), 13 RA0/C1IN+/ICSPDAT (io), 14 VSS (power)

## PIC16F688-I/SL
designator DD?
14-Pin Flash-Based, 8-Bit  CMOS Microcontrollers with  nanoWatt Technology
footprint SO14
pins: 1 Vdd, 2 RA5/T1CKI/OSC1/CLKIN, 3 RA4/AN3/T1G/OSC2/CLKOUT, 4 RA3/~{MCLR}/VPP, 5 RC5/RX/DT, 6 RC4/C2OUT/TX/CK, 7 RC3/AN7, 8 RC2/AN6, 9 RC1/AN5/C2IN-, 10 RC0/AN4/C2IN+, 11 RA2/AN2/T0CKI/INT/C1OUT, 12 RA1/AN1/C1IN-/VREF/ICSPCLK, 13 RA0/AN0/C1IN+/ICSPDAT/ULPWU, 14 Vss

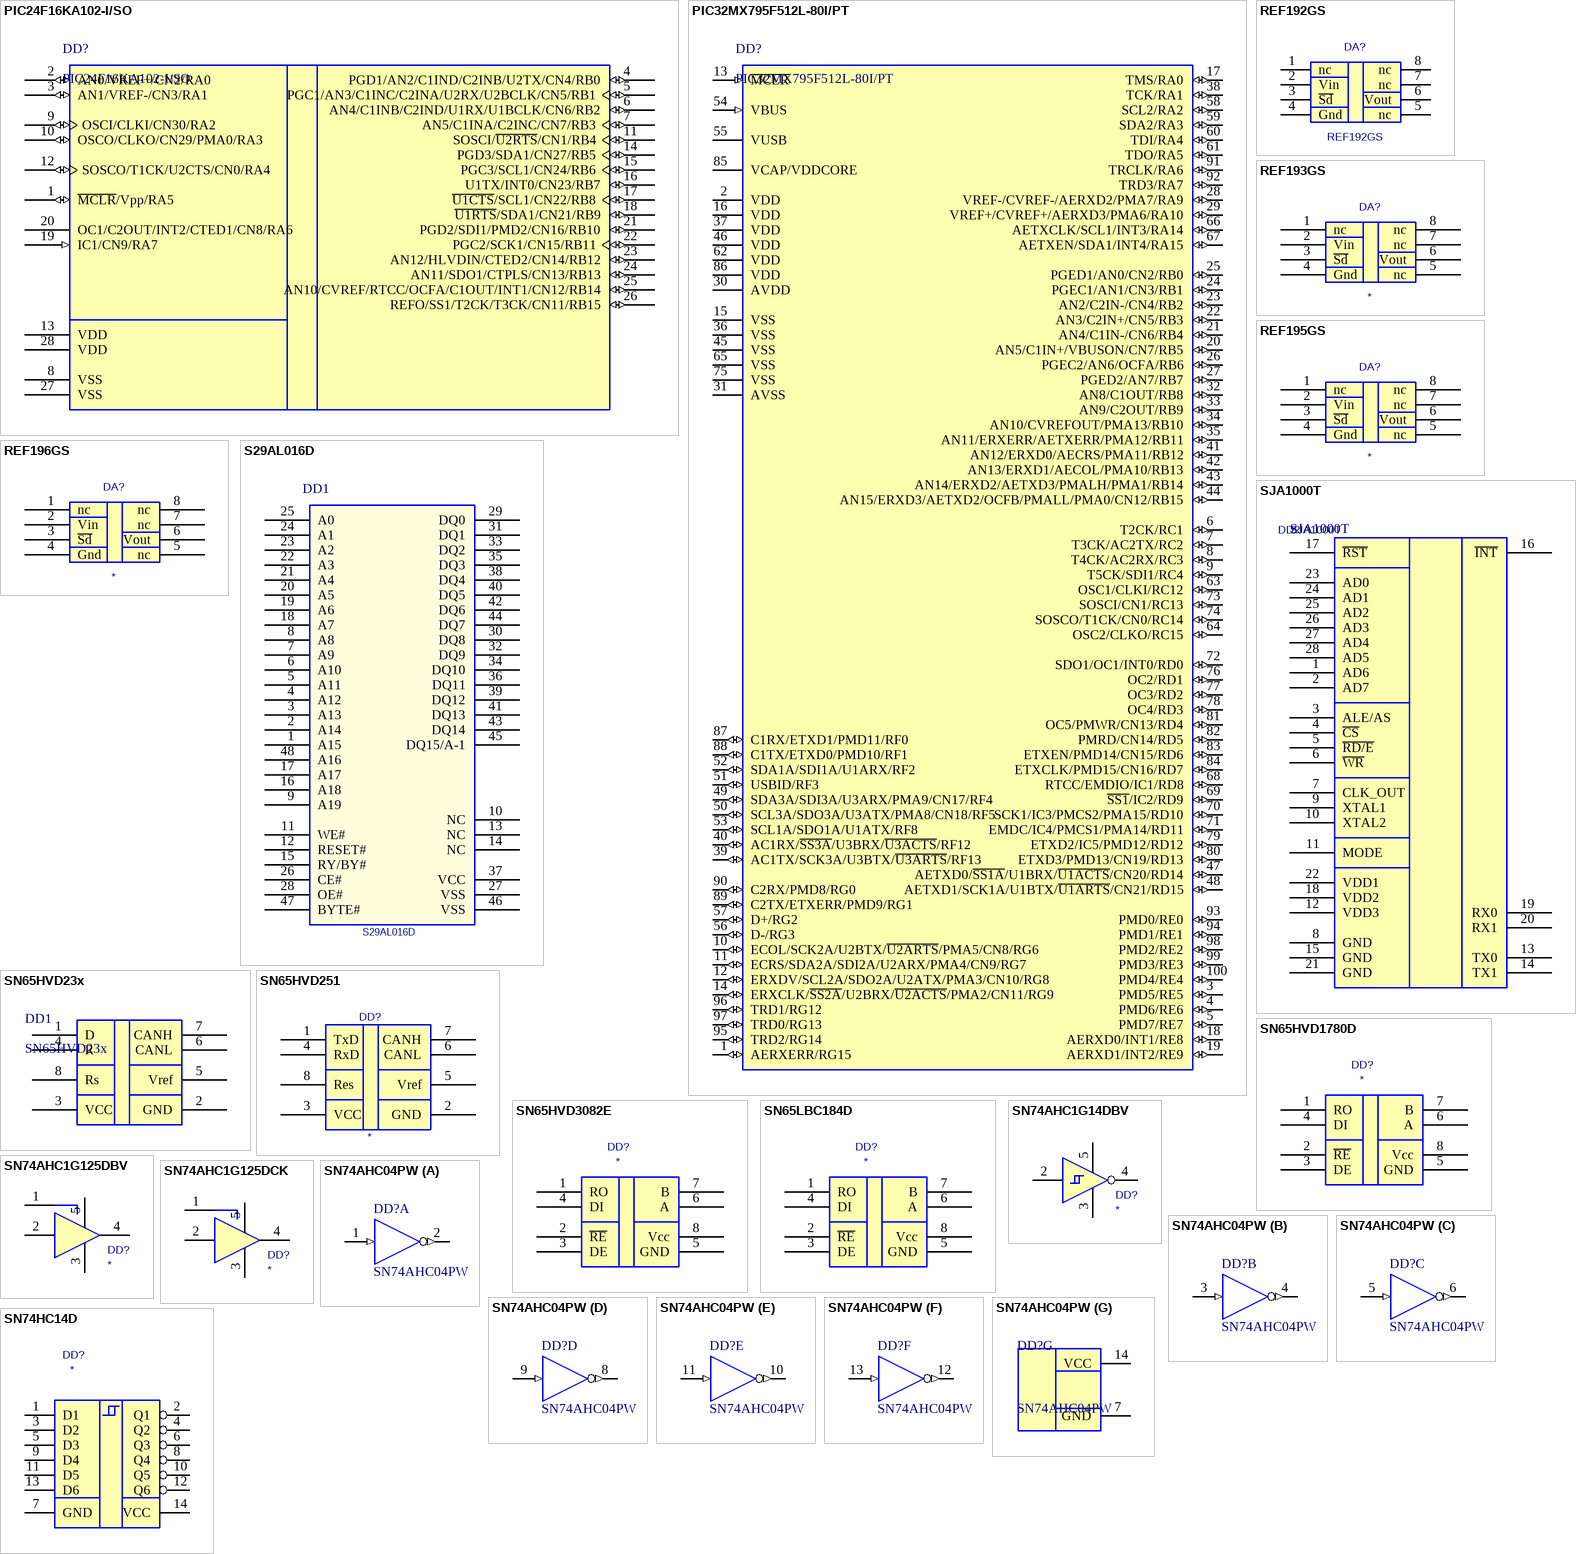
[diagram p7: symbols PIC24F16KA102-I/SO to SN74HC14D]

## PIC24F16KA102-I/SO
designator DD?
General Purpose 16-Bit Flash Microcontroller, 16KB Flash, 4KB SRAM, 28-Pin SOIC, Industrial Temperature, nanoWatt XLP™ Technology
footprint SOIC127P750-28_N (28-Pin Small Outline Integrated Circuit 1.27 mm Pitch, IPC Medium Density)
pins: 1 ~{MCLR}/Vpp/RA5 (io), 2 AN0/VREF+/CN2/RA0 (io), 3 AN1/VREF-/CN3/RA1 (io), 4 PGD1/AN2/C1IND/C2INB/U2TX/CN4/RB0 (io), 5 PGC1/AN3/C1INC/C2INA/U2RX/U2BCLK/CN5/RB1 (io), 6 AN4/C1INB/C2IND/U1RX/U1BCLK/CN6/RB2 (io), 7 AN5/C1INA/C2INC/CN7/RB3 (io), 8 VSS (power), 9 OSCI/CLKI/CN30/RA2 (io), 10 OSCO/CLKO/CN29/PMA0/RA3 (io), 11 SOSCI/~{U2RTS}/CN1/RB4 (io), 12 SOSCO/T1CK/U2CTS/CN0/RA4 (io), 13 VDD (power), 14 PGD3/SDA1/CN27/RB5 (io), 15 PGC3/SCL1/CN24/RB6 (io), 16 U1TX/INT0/CN23/RB7 (io), 17 ~{U1CTS}/SCL1/CN22/RB8 (io), 18 ~{U1RTS}/SDA1/CN21/RB9 (io), 19 IC1/CN9/RA7 (in), 20 OC1/C2OUT/INT2/CTED1/CN8/RA6 (power), 21 PGD2/SDI1/PMD2/CN16/RB10 (io), 22 PGC2/SCK1/CN15/RB11 (io), 23 AN12/HLVDIN/CTED2/CN14/RB12 (io), 24 AN11/SDO1/CTPLS/CN13/RB13 (io), 25 AN10/CVREF/RTCC/OCFA/C1OUT/INT1/CN12/RB14 (io), 26 REFO/SS1/T2CK/T3CK/CN11/RB15 (io), 27 VSS (power), 28 VDD (power)